# Altium integrated library Actel RTSX-SU.IntLib: 48 symbols (part 3 of 6)
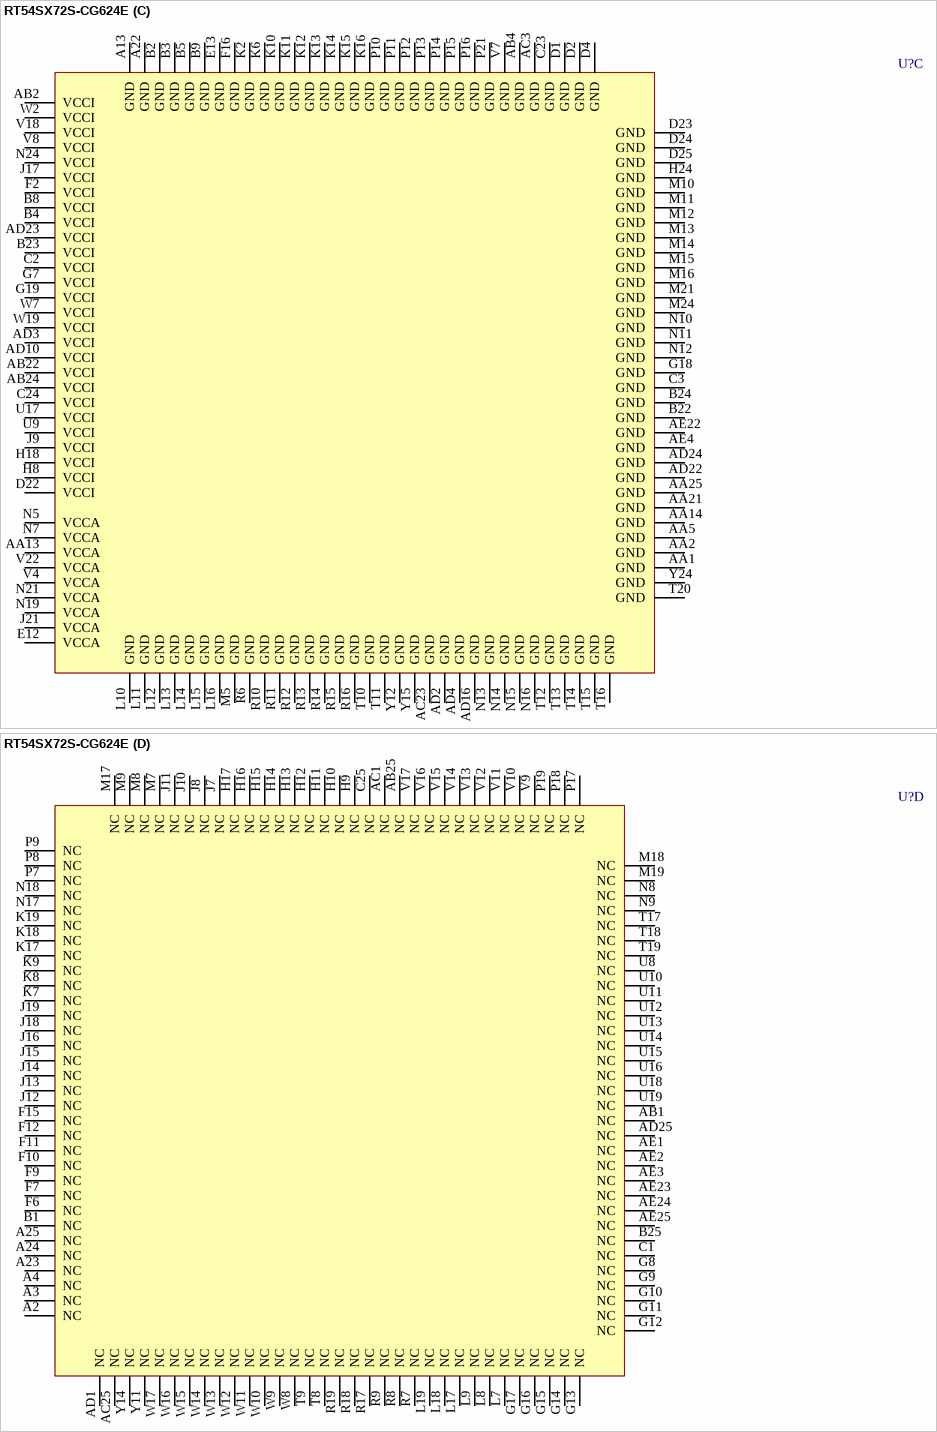
[diagram p61: symbol RT54SX72S-CG624E]

## RT54SX72S-CG624E
designator U?
RT54SX72S RadTolerant FPGA, 360 User IOs, 624-Pin CCGA, Speed Grade Standard, E-Flow (Space Level Flow); DatasheetVersion: v2.2, Nov-2004; PackageVersion: ver11.2, Nov-2009; PackageReference: CG624; PackageDescription: 624-Pin Ceramic Column Grid Array 1.27 mm Pitch; Code_JEDEC: MO-158-BE-01; ComponentLink1Description: Manufacturer URL; ComponentLink1URL: http://www.actel.com/; ComponentLink2Description: RTSX-S RadTolerant Datasheet; ComponentLink2URL: http://www.actel.com/documents/RT54SXS_DS.pdf; ComponentLink3Description: Package Mechanical Drawings; ComponentLink3URL: http://www.actel.com/documents/PckgMechDrwngs.pdf; ComponentLink4Description: RTSX-S Discontinued Documents; ComponentLink4URL: http://www.actel.com/products/discontinued/default.aspx#rtsxs
footprint CG624 (CGA, 624-Leads, Body 32.5x32.5mm, Pitch 1.27mm)
part A pins: A5 IO (io), A6 IO (io), A7 IO (io), A8 IO (io), A9 IO (io), A10 IO (io), A11 IO (io), A12 IO (io), A14 IO (io), A15 IO (io), A16 IO (io), A17 IO (io), A18 IO (io), A19 IO (io), A20 IO (io), A21 IO (io), AB3 IO (io), AB5 IO (io), AB6 IO (io), AB7 IO (io), AB8 IO (io), AB9 IO (io), AB10 IO (io), AB11 IO (io), AB12 QCLKA/IO (io), AB13 IO (io), AB14 IO (io), AB15 IO (io), AB16 IO (io), AB17 IO (io), AB18 IO (io), AB19 IO (io), AB20 IO (io), AB21 TDO/IO (io), AB23 IO (io), AC2 IO (io), AC4 IO (io), AC5 IO (io), AC6 IO (io), AC7 IO (io), AC8 IO (io), AC9 IO (io), AC10 IO (io), AC11 IO (io), AC12 PRB/IO (io), AC14 HCLK (in), AE14 QCLKB/IO (io), B6 IO (io), B7 IO (io), B10 IO (io), B11 IO (io), B14 CLKB/IO (io), C11 QCLKC/IO (io), C13 PRA/IO (io), C14 CLKA/IO (io), C22 IO (io), D3 TDI (in), D5 IO (io), D6 IO (io), D7 IO (io), D8 IO (io), D9 IO (io), D10 IO (io), D11 IO (io), D12 IO (io), D13 IO (io), D14 QCLKD/IO (io), D15 IO (io), D16 IO (io), D17 IO (io), D18 IO (io), D19 IO (io), D20 IO (io), D21 IO (io), E1 IO (io), E2 IO (io), E3 IO (io), E4 IO (io), E5 TCK/IO (io), E6 IO (io), E7 IO (io), E8 IO (io), E9 IO (io), E10 IO (io), E11 IO (io), E14 IO (io), E15 IO (io), E16 IO (io), E17 IO (io), E18 IO (io), E19 IO (io), E20 IO (io), E21 IO (io), E22 IO (io), E23 IO (io), E24 IO (io), E25 IO (io), F1 IO (io), F3 IO (io), F4 IO (io), F5 IO (io), F8 IO (io), F13 IO (io), F14 IO (io), G3 TMS (in), H2 IO (io), H3 IO (io), H4 IO (io), H5 IO (io), H6 IO (io), H7 IO (io), H19 IO (io), H20 IO (io), H21 IO (io), H22 IO (io), H23 IO (io), H25 IO (io), J1 IO (io), J2 IO (io), J3 IO (io), J4 IO (io), J5 IO (io), J6 IO (io), J20 IO (io), J22 IO (io), J23 IO (io), J24 IO (io), J25 IO (io), K1 IO (io), K3 IO (io), K4 IO (io), K5 IO (io), K20 IO (io), K21 IO (io), M20 IO (io), M22 IO (io), M23 IO (io), M25 IO (io), N1 IO (io), N2 IO (io), N3 IO (io), N4 IO (io), N6 IO (io), N20 IO (io), N22 IO (io), N23 IO (io), N25 IO (io), P1 IO (io), P2 IO (io), P3 IO (io), P4 IO (io), P5 IO (io), P6 IO (io), P20 IO (io), P22 IO (io), P23 IO (io), P24 IO (io), P25 IO (io), R1 IO (io), R4 ~{TRST} (in), U22 IO (io), U23 IO (io), U24 IO (io), U25 IO (io), V1 IO (io), V2 IO (io), V3 IO (io), V5 IO (io), V6 IO (io), V19 IO (io), V20 IO (io), V21 IO (io), V23 IO (io), V24 IO (io), V25 IO (io), W1 IO (io), W3 IO (io), W4 IO (io), W5 IO (io), W6 IO (io)
part B pins: AA3 IO (io), AA4 IO (io), AA6 IO (io), AA7 IO (io), AA8 IO (io), AA9 IO (io), AA10 IO (io), AA11 IO (io), AA12 IO (io), AA15 IO (io), AA16 IO (io), AA17 IO (io), AA18 IO (io), AA19 IO (io), AA20 IO (io), AA22 IO (io), AA23 IO (io), AA24 IO (io), AC13 IO (io), AC15 IO (io), AC16 IO (io), AC17 IO (io), AC18 IO (io), AC19 IO (io), AC20 IO (io), AC21 IO (io), AC22 IO (io), AC24 IO (io), AD5 IO (io), AD6 IO (io), AD7 IO (io), AD8 IO (io), AD9 IO (io), AD11 IO (io), AD12 IO (io), AD13 IO (io), AD14 IO (io), AD15 IO (io), AD17 IO (io), AD18 IO (io), AD19 IO (io), AD20 IO (io), AD21 IO (io), AE5 IO (io), AE6 IO (io), AE7 IO (io), AE8 IO (io), AE9 IO (io), AE10 IO (io), AE11 IO (io), AE12 IO (io), AE13 IO (io), AE15 IO (io), AE16 IO (io), AE17 IO (io), AE18 IO (io), AE19 IO (io), AE20 IO (io), AE21 IO (io), B12 IO (io), B13 IO (io), B15 IO (io), B16 IO (io), B17 IO (io), B18 IO (io), B19 IO (io), B20 IO (io), B21 IO (io), C4 IO (io), C5 IO (io), C6 IO (io), C7 IO (io), C8 IO (io), C9 IO (io), C10 IO (io), C12 IO (io), C15 IO (io), C16 IO (io), C17 IO (io), C18 IO (io), C19 IO (io), C20 IO (io), C21 IO (io), F17 IO (io), F18 IO (io), F19 IO (io), F20 IO (io), F21 IO (io), F22 IO (io), F23 IO (io), F24 IO (io), F25 IO (io), G1 IO (io), G2 IO (io), G4 IO (io), G5 IO (io), G6 IO (io), G20 IO (io), G21 IO (io), G22 IO (io), G23 IO (io), G24 IO (io), G25 IO (io), H1 IO (io), K22 IO (io), K23 IO (io), K24 IO (io), K25 IO (io), L1 IO (io), L2 IO (io), L3 IO (io), L4 IO (io), L5 IO (io), L6 IO (io), L20 IO (io), L21 IO (io), L22 IO (io), L23 IO (io), L24 IO (io), L25 IO (io), M1 IO (io), M2 IO (io), M3 IO (io), M4 IO (io), M6 IO (io), R2 IO (io), R3 IO (io), R5 IO (io), R20 IO (io), R21 IO (io), R22 IO (io), R23 IO (io), R24 IO (io), R25 IO (io), T1 IO (io), T2 IO (io), T3 IO (io), T4 IO (io), T5 IO (io), T6 IO (io), T7 IO (io), T21 IO (io), T22 IO (io), T23 IO (io), T24 IO (io), T25 IO (io), U1 IO (io), U2 IO (io), U3 IO (io), U4 IO (io), U5 IO (io), U6 IO (io), U7 IO (io), U20 IO (io), U21 IO (io), W18 IO (io), W20 IO (io), W21 IO (io), W22 IO (io), W23 IO (io), W24 IO (io), W25 IO (io), Y1 IO (io), Y2 IO (io), Y3 IO (io), Y4 IO (io), Y5 IO (io), Y6 IO (io), Y7 IO (io), Y8 IO (io), Y9 IO (io), Y10 IO (io), Y13 IO (io), Y16 IO (io), Y17 IO (io), Y18 IO (io), Y19 IO (io), Y20 IO (io), Y21 IO (io), Y22 IO (io), Y23 IO (io), Y25 IO (io)
part C pins: A13 GND (power), A22 GND (power), AA1 GND (power), AA2 GND (power), AA5 GND (power), AA13 VCCA (power), AA14 GND (power), AA21 GND (power), AA25 GND (power), AB2 VCCI (power), AB4 GND (power), AB22 VCCI (power), AB24 VCCI (power), AC3 GND (power), AC23 GND (power), AD2 GND (power), AD3 VCCI (power), AD4 GND (power), AD10 VCCI (power), AD16 GND (power), AD22 GND (power), AD23 VCCI (power), AD24 GND (power), AE4 GND (power), AE22 GND (power), B2 GND (power), B3 GND (power), B4 VCCI (power), B5 GND (power), B8 VCCI (power), B9 GND (power), B22 GND (power), B23 VCCI (power), B24 GND (power), C2 VCCI (power), C3 GND (power), C23 GND (power), C24 VCCI (power), D1 GND (power), D2 GND (power), D4 GND (power), D22 VCCI (power), D23 GND (power), D24 GND (power), D25 GND (power), E12 VCCA (power), E13 GND (power), F2 VCCI (power), F16 GND (power), G7 VCCI (power), G18 GND (power), G19 VCCI (power), H8 VCCI (power), H18 VCCI (power), H24 GND (power), J9 VCCI (power), J17 VCCI (power), J21 VCCA (power), K2 GND (power), K6 GND (power), K10 GND (power), K11 GND (power), K12 GND (power), K13 GND (power), K14 GND (power), K15 GND (power), K16 GND (power), L10 GND (power), L11 GND (power), L12 GND (power), L13 GND (power), L14 GND (power), L15 GND (power), L16 GND (power), M5 GND (power), M10 GND (power), M11 GND (power), M12 GND (power), M13 GND (power), M14 GND (power), M15 GND (power), M16 GND (power), M21 GND (power), M24 GND (power), N5 VCCA (power), N7 VCCA (power), N10 GND (power), N11 GND (power), N12 GND (power), N13 GND (power), N14 GND (power), N15 GND (power), N16 GND (power), N19 VCCA (power), N21 VCCA (power), N24 VCCI (power), P10 GND (power), P11 GND (power), P12 GND (power), P13 GND (power), P14 GND (power), P15 GND (power), P16 GND (power), P21 GND (power), R6 GND (power), R10 GND (power), R11 GND (power), R12 GND (power), R13 GND (power), R14 GND (power), R15 GND (power), R16 GND (power), T10 GND (power), T11 GND (power), T12 GND (power), T13 GND (power), T14 GND (power), T15 GND (power), T16 GND (power), T20 GND (power), U9 VCCI (power), U17 VCCI (power), V4 VCCA (power), V7 GND (power), V8 VCCI (power), V18 VCCI (power), V22 VCCA (power), W2 VCCI (power), W7 VCCI (power), W19 VCCI (power), Y12 GND (power), Y15 GND (power), Y24 GND (power)
part D pins: A2 NC, A3 NC, A4 NC, A23 NC, A24 NC, A25 NC, AB1 NC, AB25 NC, AC1 NC, AC25 NC, AD1 NC, AD25 NC, AE1 NC, AE2 NC, AE3 NC, AE23 NC, AE24 NC, AE25 NC, B1 NC, B25 NC, C1 NC, C25 NC, F6 NC, F7 NC, F9 NC, F10 NC, F11 NC, F12 NC, F15 NC, G8 NC, G9 NC, G10 NC, G11 NC, G12 NC, G13 NC, G14 NC, G15 NC, G16 NC, G17 NC, H9 NC, H10 NC, H11 NC, H12 NC, H13 NC, H14 NC, H15 NC, H16 NC, H17 NC, J7 NC, J8 NC, J10 NC, J11 NC, J12 NC, J13 NC, J14 NC, J15 NC, J16 NC, J18 NC, J19 NC, K7 NC, K8 NC, K9 NC, K17 NC, K18 NC, K19 NC, L7 NC, L8 NC, L9 NC, L17 NC, L18 NC, L19 NC, M7 NC, M8 NC, M9 NC, M17 NC, M18 NC, M19 NC, N8 NC, N9 NC, N17 NC, N18 NC, P7 NC, P8 NC, P9 NC, P17 NC, P18 NC, P19 NC, R7 NC, R8 NC, R9 NC, R17 NC, R18 NC, R19 NC, T8 NC, T9 NC, T17 NC, T18 NC, T19 NC, U8 NC, U10 NC, U11 NC, U12 NC, U13 NC, U14 NC, U15 NC, U16 NC, U18 NC, U19 NC, V9 NC, V10 NC, V11 NC, V12 NC, V13 NC, V14 NC, V15 NC, V16 NC, V17 NC, W8 NC, W9 NC, W10 NC, W11 NC, W12 NC, W13 NC, W14 NC, W15 NC, W16 NC, W17 NC, Y11 NC, Y14 NC

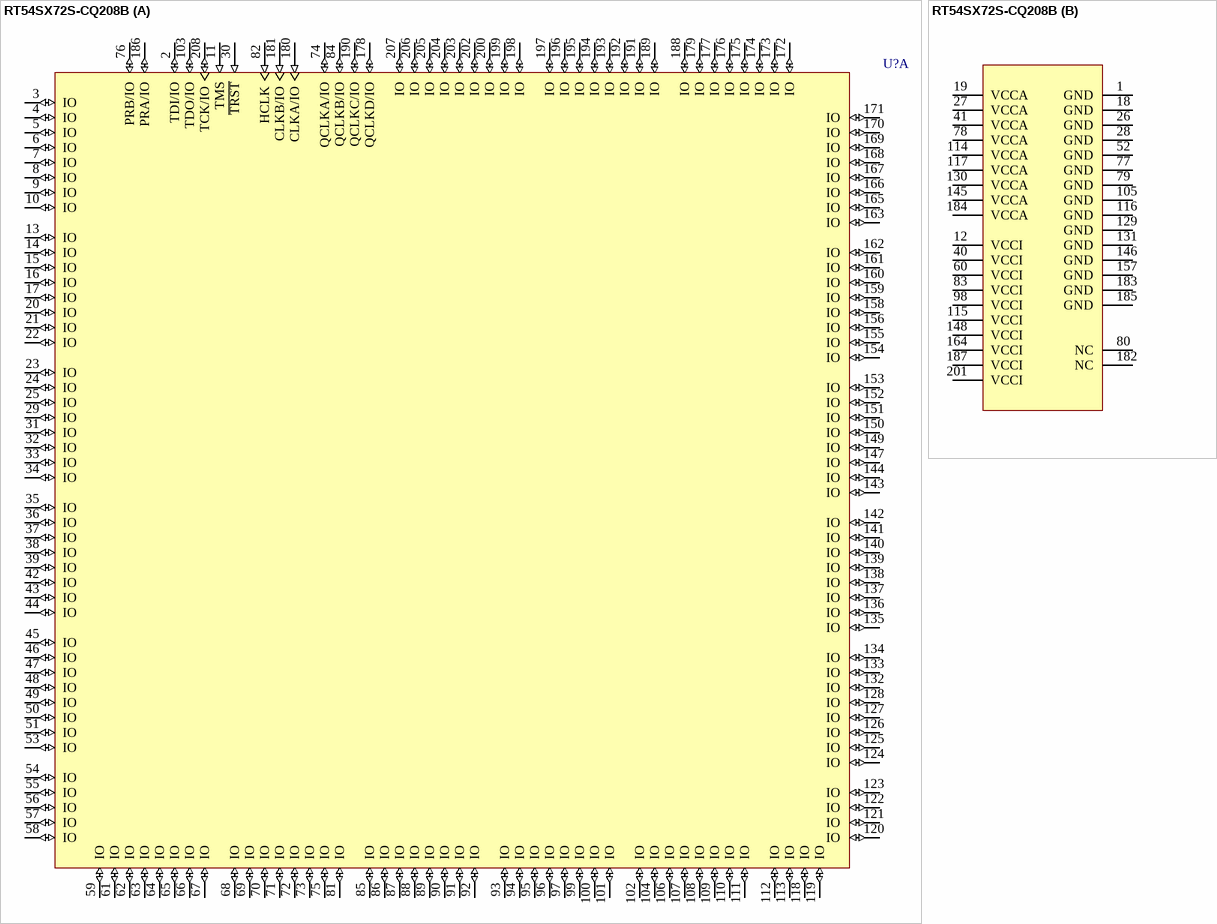
[diagram p26: symbol RT54SX72S-CQ208B]

## RT54SX72S-CQ208B
designator U?
RT54SX72S RadTolerant FPGA, 170 User IOs, 208-Pin CQFP, Speed Grade Standard, MIL-STD-883 Class B; DatasheetVersion: v2.2, Nov-2004; PackageVersion: ver11.2, Nov-2009; PackageReference: CQ208; PackageDescription: 208-Pin Ceramic Quad Flat Pack (CQFP); ComponentLink1Description: Manufacturer URL; ComponentLink1URL: http://www.actel.com/; ComponentLink2Description: RTSX-S RadTolerant Datasheet; ComponentLink2URL: http://www.actel.com/documents/RT54SXS_DS.pdf; ComponentLink3Description: Package Mechanical Drawings; ComponentLink3URL: http://www.actel.com/documents/PckgMechDrwngs.pdf; ComponentLink4Description: RTSX-S Discontinued Documents; ComponentLink4URL: http://www.actel.com/products/discontinued/default.aspx#rtsxs
footprint CQ208_N (CQFP, 208-Leads, Body 29x29mm; Pitch 0.5mm, Gullwing Leadform, IPC Medium Density)
footprint CQ208_L (CQFP, 208-Leads, Body 29x29mm; Pitch 0.5mm, Gullwing Leadform, IPC High Density)
footprint CQ208_M (CQFP, 208-Leads, Body 29x29mm; Pitch 0.5mm, Gullwing Leadform, IPC Low Density)
part A pins: 2 TDI/IO (io), 3 IO (io), 4 IO (io), 5 IO (io), 6 IO (io), 7 IO (io), 8 IO (io), 9 IO (io), 10 IO (io), 11 TMS (in), 13 IO (io), 14 IO (io), 15 IO (io), 16 IO (io), 17 IO (io), 20 IO (io), 21 IO (io), 22 IO (io), 23 IO (io), 24 IO (io), 25 IO (io), 29 IO (io), 30 ~{TRST} (in), 31 IO (io), 32 IO (io), 33 IO (io), 34 IO (io), 35 IO (io), 36 IO (io), 37 IO (io), 38 IO (io), 39 IO (io), 42 IO (io), 43 IO (io), 44 IO (io), 45 IO (io), 46 IO (io), 47 IO (io), 48 IO (io), 49 IO (io), 50 IO (io), 51 IO (io), 53 IO (io), 54 IO (io), 55 IO (io), 56 IO (io), 57 IO (io), 58 IO (io), 59 IO (io), 61 IO (io), 62 IO (io), 63 IO (io), 64 IO (io), 65 IO (io), 66 IO (io), 67 IO (io), 68 IO (io), 69 IO (io), 70 IO (io), 71 IO (io), 72 IO (io), 73 IO (io), 74 QCLKA/IO (io), 75 IO (io), 76 PRB/IO (io), 81 IO (io), 82 HCLK (in), 84 QCLKB/IO (io), 85 IO (io), 86 IO (io), 87 IO (io), 88 IO (io), 89 IO (io), 90 IO (io), 91 IO (io), 92 IO (io), 93 IO (io), 94 IO (io), 95 IO (io), 96 IO (io), 97 IO (io), 99 IO (io), 100 IO (io), 101 IO (io), 102 IO (io), 103 TDO/IO (io), 104 IO (io), 106 IO (io), 107 IO (io), 108 IO (io), 109 IO (io), 110 IO (io), 111 IO (io), 112 IO (io), 113 IO (io), 118 IO (io), 119 IO (io), 120 IO (io), 121 IO (io), 122 IO (io), 123 IO (io), 124 IO (io), 125 IO (io), 126 IO (io), 127 IO (io), 128 IO (io), 132 IO (io), 133 IO (io), 134 IO (io), 135 IO (io), 136 IO (io), 137 IO (io), 138 IO (io), 139 IO (io), 140 IO (io), 141 IO (io), 142 IO (io), 143 IO (io), 144 IO (io), 147 IO (io), 149 IO (io), 150 IO (io), 151 IO (io), 152 IO (io), 153 IO (io), 154 IO (io), 155 IO (io), 156 IO (io), 158 IO (io), 159 IO (io), 160 IO (io), 161 IO (io), 162 IO (io), 163 IO (io), 165 IO (io), 166 IO (io), 167 IO (io), 168 IO (io), 169 IO (io), 170 IO (io), 171 IO (io), 172 IO (io), 173 IO (io), 174 IO (io), 175 IO (io), 176 IO (io), 177 IO (io), 178 QCLKD/IO (io), 179 IO (io), 180 CLKA/IO (in), 181 CLKB/IO (in), 186 PRA/IO (io), 188 IO (io), 189 IO (io), 190 QCLKC/IO (io), 191 IO (io), 192 IO (io), 193 IO (io), 194 IO (io), 195 IO (io), 196 IO (io), 197 IO (io), 198 IO (io), 199 IO (io), 200 IO (io), 202 IO (io), 203 IO (io), 204 IO (io), 205 IO (io), 206 IO (io), 207 IO (io), 208 TCK/IO (io)
part B pins: 1 GND (power), 12 VCCI (power), 18 GND (power), 19 VCCA (power), 26 GND (power), 27 VCCA (power), 28 GND (power), 40 VCCI (power), 41 VCCA (power), 52 GND (power), 60 VCCI (power), 77 GND (power), 78 VCCA (power), 79 GND (power), 80 NC, 83 VCCI (power), 98 VCCI (power), 105 GND (power), 114 VCCA (power), 115 VCCI (power), 116 GND (power), 117 VCCA (power), 129 GND (power), 130 VCCA (power), 131 GND (power), 145 VCCA (power), 146 GND (power), 148 VCCI (power), 157 GND (power), 164 VCCI (power), 182 NC, 183 GND (power), 184 VCCA (power), 185 GND (power), 187 VCCI (power), 201 VCCI (power)

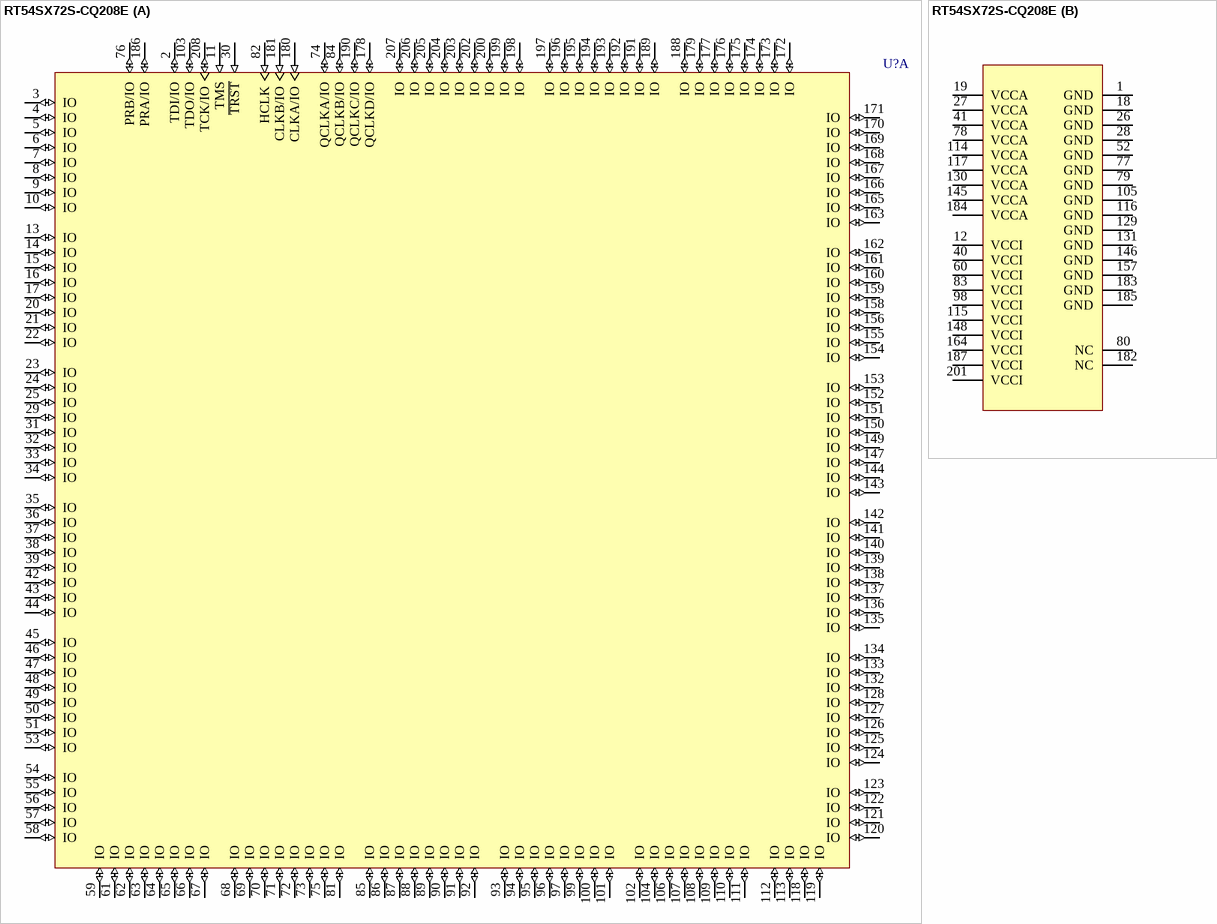
[diagram p27: symbol RT54SX72S-CQ208E]

## RT54SX72S-CQ208E
designator U?
RT54SX72S RadTolerant FPGA, 170 User IOs, 208-Pin CQFP, Speed Grade Standard, E-Flow (Space Level Flow); DatasheetVersion: v2.2, Nov-2004; PackageVersion: ver11.2, Nov-2009; PackageReference: CQ208; PackageDescription: 208-Pin Ceramic Quad Flat Pack (CQFP); ComponentLink1Description: Manufacturer URL; ComponentLink1URL: http://www.actel.com/; ComponentLink2Description: RTSX-S RadTolerant Datasheet; ComponentLink2URL: http://www.actel.com/documents/RT54SXS_DS.pdf; ComponentLink3Description: Package Mechanical Drawings; ComponentLink3URL: http://www.actel.com/documents/PckgMechDrwngs.pdf; ComponentLink4Description: RTSX-S Discontinued Documents; ComponentLink4URL: http://www.actel.com/products/discontinued/default.aspx#rtsxs
footprint CQ208_N (CQFP, 208-Leads, Body 29x29mm; Pitch 0.5mm, Gullwing Leadform, IPC Medium Density)
footprint CQ208_L (CQFP, 208-Leads, Body 29x29mm; Pitch 0.5mm, Gullwing Leadform, IPC High Density)
footprint CQ208_M (CQFP, 208-Leads, Body 29x29mm; Pitch 0.5mm, Gullwing Leadform, IPC Low Density)
part A pins: 2 TDI/IO (io), 3 IO (io), 4 IO (io), 5 IO (io), 6 IO (io), 7 IO (io), 8 IO (io), 9 IO (io), 10 IO (io), 11 TMS (in), 13 IO (io), 14 IO (io), 15 IO (io), 16 IO (io), 17 IO (io), 20 IO (io), 21 IO (io), 22 IO (io), 23 IO (io), 24 IO (io), 25 IO (io), 29 IO (io), 30 ~{TRST} (in), 31 IO (io), 32 IO (io), 33 IO (io), 34 IO (io), 35 IO (io), 36 IO (io), 37 IO (io), 38 IO (io), 39 IO (io), 42 IO (io), 43 IO (io), 44 IO (io), 45 IO (io), 46 IO (io), 47 IO (io), 48 IO (io), 49 IO (io), 50 IO (io), 51 IO (io), 53 IO (io), 54 IO (io), 55 IO (io), 56 IO (io), 57 IO (io), 58 IO (io), 59 IO (io), 61 IO (io), 62 IO (io), 63 IO (io), 64 IO (io), 65 IO (io), 66 IO (io), 67 IO (io), 68 IO (io), 69 IO (io), 70 IO (io), 71 IO (io), 72 IO (io), 73 IO (io), 74 QCLKA/IO (io), 75 IO (io), 76 PRB/IO (io), 81 IO (io), 82 HCLK (in), 84 QCLKB/IO (io), 85 IO (io), 86 IO (io), 87 IO (io), 88 IO (io), 89 IO (io), 90 IO (io), 91 IO (io), 92 IO (io), 93 IO (io), 94 IO (io), 95 IO (io), 96 IO (io), 97 IO (io), 99 IO (io), 100 IO (io), 101 IO (io), 102 IO (io), 103 TDO/IO (io), 104 IO (io), 106 IO (io), 107 IO (io), 108 IO (io), 109 IO (io), 110 IO (io), 111 IO (io), 112 IO (io), 113 IO (io), 118 IO (io), 119 IO (io), 120 IO (io), 121 IO (io), 122 IO (io), 123 IO (io), 124 IO (io), 125 IO (io), 126 IO (io), 127 IO (io), 128 IO (io), 132 IO (io), 133 IO (io), 134 IO (io), 135 IO (io), 136 IO (io), 137 IO (io), 138 IO (io), 139 IO (io), 140 IO (io), 141 IO (io), 142 IO (io), 143 IO (io), 144 IO (io), 147 IO (io), 149 IO (io), 150 IO (io), 151 IO (io), 152 IO (io), 153 IO (io), 154 IO (io), 155 IO (io), 156 IO (io), 158 IO (io), 159 IO (io), 160 IO (io), 161 IO (io), 162 IO (io), 163 IO (io), 165 IO (io), 166 IO (io), 167 IO (io), 168 IO (io), 169 IO (io), 170 IO (io), 171 IO (io), 172 IO (io), 173 IO (io), 174 IO (io), 175 IO (io), 176 IO (io), 177 IO (io), 178 QCLKD/IO (io), 179 IO (io), 180 CLKA/IO (in), 181 CLKB/IO (in), 186 PRA/IO (io), 188 IO (io), 189 IO (io), 190 QCLKC/IO (io), 191 IO (io), 192 IO (io), 193 IO (io), 194 IO (io), 195 IO (io), 196 IO (io), 197 IO (io), 198 IO (io), 199 IO (io), 200 IO (io), 202 IO (io), 203 IO (io), 204 IO (io), 205 IO (io), 206 IO (io), 207 IO (io), 208 TCK/IO (io)
part B pins: 1 GND (power), 12 VCCI (power), 18 GND (power), 19 VCCA (power), 26 GND (power), 27 VCCA (power), 28 GND (power), 40 VCCI (power), 41 VCCA (power), 52 GND (power), 60 VCCI (power), 77 GND (power), 78 VCCA (power), 79 GND (power), 80 NC, 83 VCCI (power), 98 VCCI (power), 105 GND (power), 114 VCCA (power), 115 VCCI (power), 116 GND (power), 117 VCCA (power), 129 GND (power), 130 VCCA (power), 131 GND (power), 145 VCCA (power), 146 GND (power), 148 VCCI (power), 157 GND (power), 164 VCCI (power), 182 NC, 183 GND (power), 184 VCCA (power), 185 GND (power), 187 VCCI (power), 201 VCCI (power)

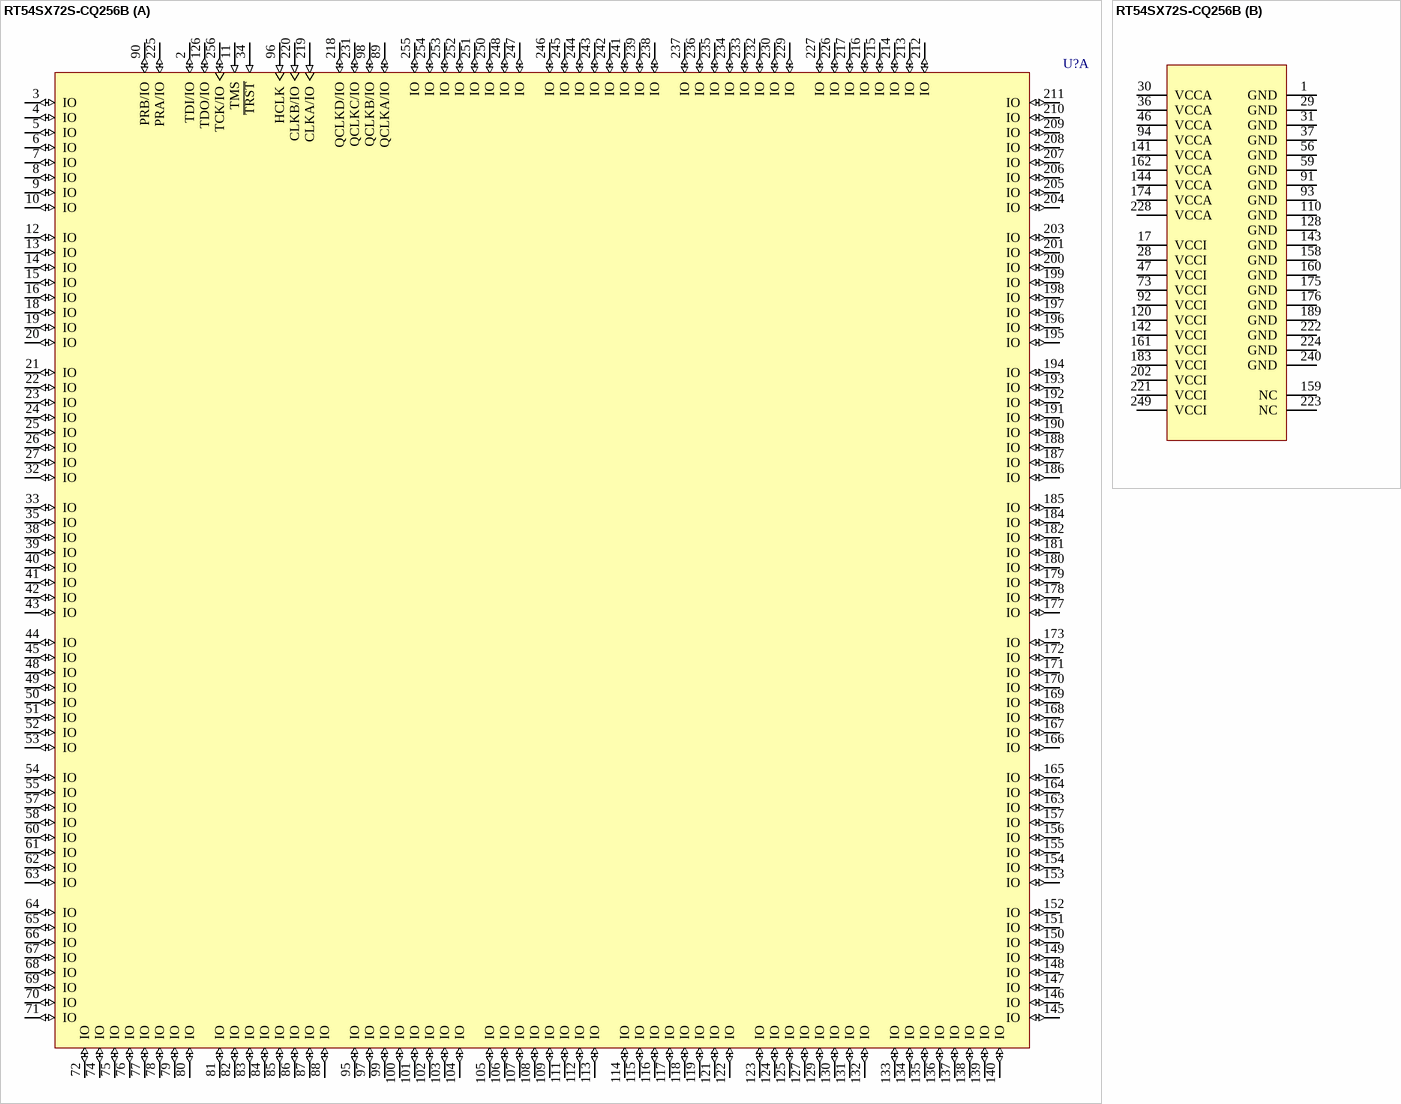
[diagram p28: symbol RT54SX72S-CQ256B]

## RT54SX72S-CQ256B
designator U?
RT54SX72S RadTolerant FPGA, 212 User IOs, 256-Pin CQFP, Speed Grade Standard, MIL-STD-883 Class B; DatasheetVersion: v2.2, Nov-2004; PackageVersion: ver11.2, Nov-2009; PackageReference: CQ256; PackageDescription: 256-Pin Ceramic Quad Flat Pack (CQFP); Code_JEDEC: MO-134-AB; ComponentLink1Description: Manufacturer URL; ComponentLink1URL: http://www.actel.com/; ComponentLink2Description: RTSX-S RadTolerant Datasheet; ComponentLink2URL: http://www.actel.com/documents/RT54SXS_DS.pdf; ComponentLink3Description: Package Mechanical Drawings; ComponentLink3URL: http://www.actel.com/documents/PckgMechDrwngs.pdf; ComponentLink4Description: RTSX-S Discontinued Documents; ComponentLink4URL: http://www.actel.com/products/discontinued/default.aspx#rtsxs
footprint CQ256_N (CQFP, 256-Leads, Body 36x36mm; Pitch 0.5mm, Gullwing Leadform, IPC Medium Density)
footprint CQ256_L (CQFP, 256-Leads, Body 36x36mm; Pitch 0.5mm, Gullwing Leadform, IPC High Density)
footprint CQ256_M (CQFP, 256-Leads, Body 36x36mm; Pitch 0.5mm, Gullwing Leadform, IPC Low Density)
part A pins: 2 TDI/IO (io), 3 IO (io), 4 IO (io), 5 IO (io), 6 IO (io), 7 IO (io), 8 IO (io), 9 IO (io), 10 IO (io), 11 TMS (in), 12 IO (io), 13 IO (io), 14 IO (io), 15 IO (io), 16 IO (io), 18 IO (io), 19 IO (io), 20 IO (io), 21 IO (io), 22 IO (io), 23 IO (io), 24 IO (io), 25 IO (io), 26 IO (io), 27 IO (io), 32 IO (io), 33 IO (io), 34 ~{TRST} (in), 35 IO (io), 38 IO (io), 39 IO (io), 40 IO (io), 41 IO (io), 42 IO (io), 43 IO (io), 44 IO (io), 45 IO (io), 48 IO (io), 49 IO (io), 50 IO (io), 51 IO (io), 52 IO (io), 53 IO (io), 54 IO (io), 55 IO (io), 57 IO (io), 58 IO (io), 60 IO (io), 61 IO (io), 62 IO (io), 63 IO (io), 64 IO (io), 65 IO (io), 66 IO (io), 67 IO (io), 68 IO (io), 69 IO (io), 70 IO (io), 71 IO (io), 72 IO (io), 74 IO (io), 75 IO (io), 76 IO (io), 77 IO (io), 78 IO (io), 79 IO (io), 80 IO (io), 81 IO (io), 82 IO (io), 83 IO (io), 84 IO (io), 85 IO (io), 86 IO (io), 87 IO (io), 88 IO (io), 89 QCLKA/IO (io), 90 PRB/IO (io), 95 IO (io), 96 HCLK (in), 97 IO (io), 98 QCLKB/IO (io), 99 IO (io), 100 IO (io), 101 IO (io), 102 IO (io), 103 IO (io), 104 IO (io), 105 IO (io), 106 IO (io), 107 IO (io), 108 IO (io), 109 IO (io), 111 IO (io), 112 IO (io), 113 IO (io), 114 IO (io), 115 IO (io), 116 IO (io), 117 IO (io), 118 IO (io), 119 IO (io), 121 IO (io), 122 IO (io), 123 IO (io), 124 IO (io), 125 IO (io), 126 TDO/IO (io), 127 IO (io), 129 IO (io), 130 IO (io), 131 IO (io), 132 IO (io), 133 IO (io), 134 IO (io), 135 IO (io), 136 IO (io), 137 IO (io), 138 IO (io), 139 IO (io), 140 IO (io), 145 IO (io), 146 IO (io), 147 IO (io), 148 IO (io), 149 IO (io), 150 IO (io), 151 IO (io), 152 IO (io), 153 IO (io), 154 IO (io), 155 IO (io), 156 IO (io), 157 IO (io), 163 IO (io), 164 IO (io), 165 IO (io), 166 IO (io), 167 IO (io), 168 IO (io), 169 IO (io), 170 IO (io), 171 IO (io), 172 IO (io), 173 IO (io), 177 IO (io), 178 IO (io), 179 IO (io), 180 IO (io), 181 IO (io), 182 IO (io), 184 IO (io), 185 IO (io), 186 IO (io), 187 IO (io), 188 IO (io), 190 IO (io), 191 IO (io), 192 IO (io), 193 IO (io), 194 IO (io), 195 IO (io), 196 IO (io), 197 IO (io), 198 IO (io), 199 IO (io), 200 IO (io), 201 IO (io), 203 IO (io), 204 IO (io), 205 IO (io), 206 IO (io), 207 IO (io), 208 IO (io), 209 IO (io), 210 IO (io), 211 IO (io), 212 IO (io), 213 IO (io), 214 IO (io), 215 IO (io), 216 IO (io), 217 IO (io), 218 QCLKD/IO (io), 219 CLKA/IO (in), 220 CLKB/IO (in), 225 PRA/IO (io), 226 IO (io), 227 IO (io), 229 IO (io), 230 IO (io), 231 QCLKC/IO (io), 232 IO (io), 233 IO (io), 234 IO (io), 235 IO (io), 236 IO (io), 237 IO (io), 238 IO (io), 239 IO (io), 241 IO (io), 242 IO (io), 243 IO (io), 244 IO (io), 245 IO (io), 246 IO (io), 247 IO (io), 248 IO (io), 250 IO (io), 251 IO (io), 252 IO (io), 253 IO (io), 254 IO (io), 255 IO (io), 256 TCK/IO (io)
part B pins: 1 GND (power), 17 VCCI (power), 28 VCCI (power), 29 GND (power), 30 VCCA (power), 31 GND (power), 36 VCCA (power), 37 GND (power), 46 VCCA (power), 47 VCCI (power), 56 GND (power), 59 GND (power), 73 VCCI (power), 91 GND (power), 92 VCCI (power), 93 GND (power), 94 VCCA (power), 110 GND (power), 120 VCCI (power), 128 GND (power), 141 VCCA (power), 142 VCCI (power), 143 GND (power), 144 VCCA (power), 158 GND (power), 159 NC, 160 GND (power), 161 VCCI (power), 162 VCCA (power), 174 VCCA (power), 175 GND (power), 176 GND (power), 183 VCCI (power), 189 GND (power), 202 VCCI (power), 221 VCCI (power), 222 GND (power), 223 NC, 224 GND (power), 228 VCCA (power), 240 GND (power), 249 VCCI (power)

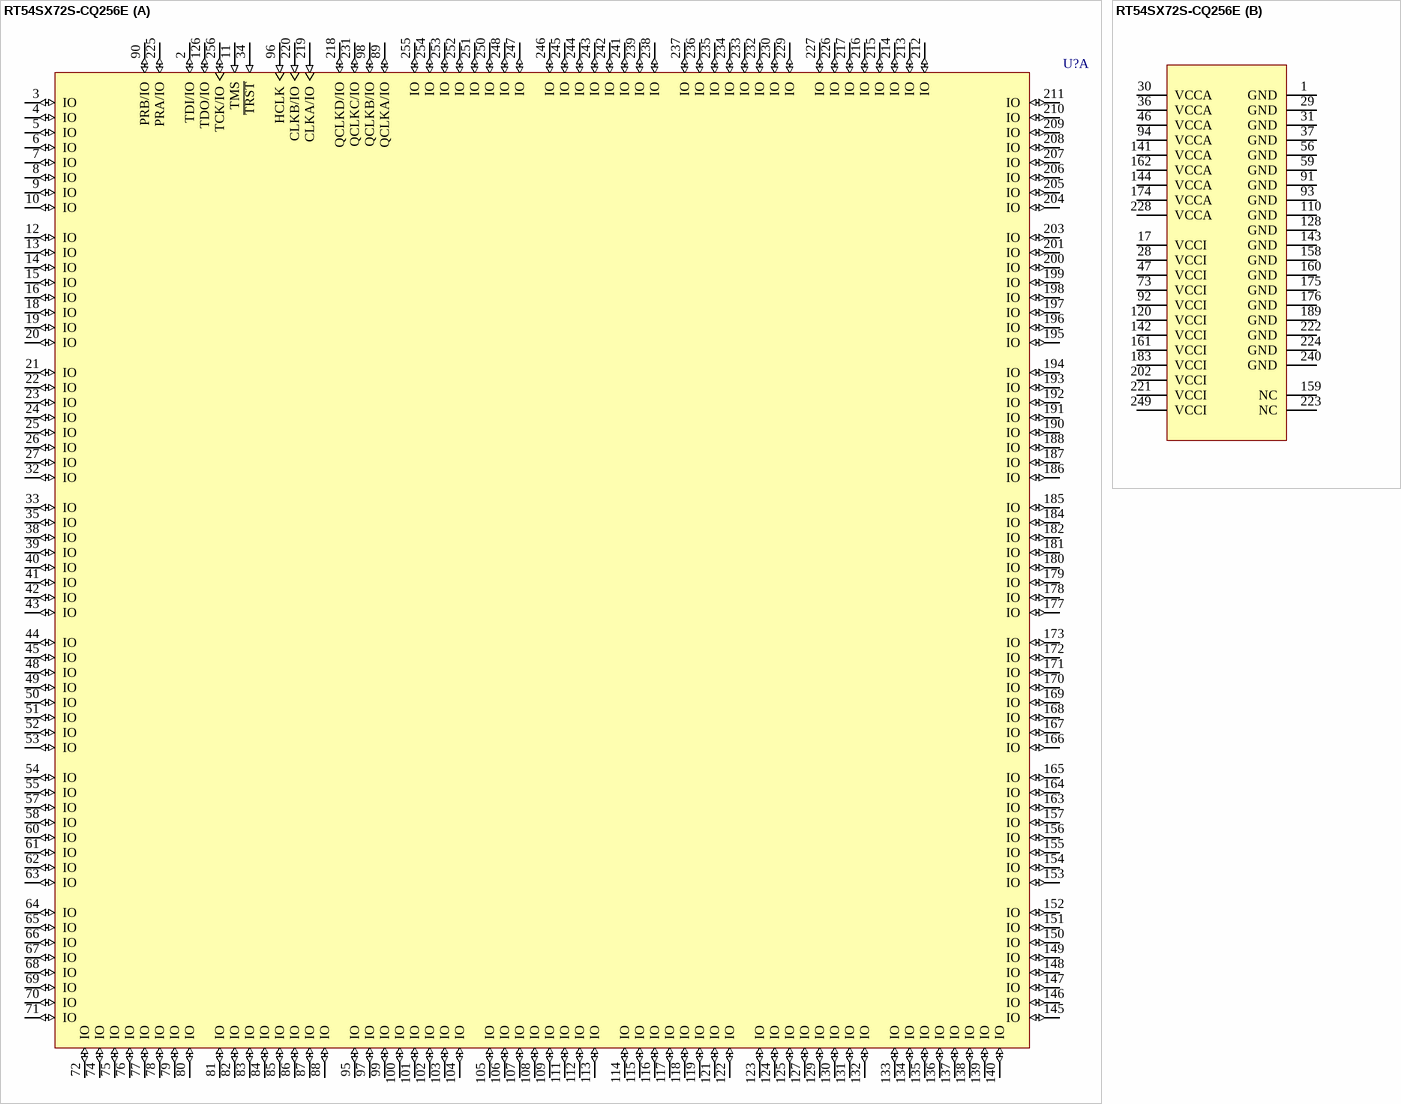
[diagram p29: symbol RT54SX72S-CQ256E]

## RT54SX72S-CQ256E
designator U?
RT54SX72S RadTolerant FPGA, 212 User IOs, 256-Pin CQFP, Speed Grade Standard, E-Flow (Space Level Flow); DatasheetVersion: v2.2, Nov-2004; PackageVersion: ver11.2, Nov-2009; PackageReference: CQ256; PackageDescription: 256-Pin Ceramic Quad Flat Pack (CQFP); Code_JEDEC: MO-134-AB; ComponentLink1Description: Manufacturer URL; ComponentLink1URL: http://www.actel.com/; ComponentLink2Description: RTSX-S RadTolerant Datasheet; ComponentLink2URL: http://www.actel.com/documents/RT54SXS_DS.pdf; ComponentLink3Description: Package Mechanical Drawings; ComponentLink3URL: http://www.actel.com/documents/PckgMechDrwngs.pdf; ComponentLink4Description: RTSX-S Discontinued Documents; ComponentLink4URL: http://www.actel.com/products/discontinued/default.aspx#rtsxs
footprint CQ256_N (CQFP, 256-Leads, Body 36x36mm; Pitch 0.5mm, Gullwing Leadform, IPC Medium Density)
footprint CQ256_L (CQFP, 256-Leads, Body 36x36mm; Pitch 0.5mm, Gullwing Leadform, IPC High Density)
footprint CQ256_M (CQFP, 256-Leads, Body 36x36mm; Pitch 0.5mm, Gullwing Leadform, IPC Low Density)
part A pins: 2 TDI/IO (io), 3 IO (io), 4 IO (io), 5 IO (io), 6 IO (io), 7 IO (io), 8 IO (io), 9 IO (io), 10 IO (io), 11 TMS (in), 12 IO (io), 13 IO (io), 14 IO (io), 15 IO (io), 16 IO (io), 18 IO (io), 19 IO (io), 20 IO (io), 21 IO (io), 22 IO (io), 23 IO (io), 24 IO (io), 25 IO (io), 26 IO (io), 27 IO (io), 32 IO (io), 33 IO (io), 34 ~{TRST} (in), 35 IO (io), 38 IO (io), 39 IO (io), 40 IO (io), 41 IO (io), 42 IO (io), 43 IO (io), 44 IO (io), 45 IO (io), 48 IO (io), 49 IO (io), 50 IO (io), 51 IO (io), 52 IO (io), 53 IO (io), 54 IO (io), 55 IO (io), 57 IO (io), 58 IO (io), 60 IO (io), 61 IO (io), 62 IO (io), 63 IO (io), 64 IO (io), 65 IO (io), 66 IO (io), 67 IO (io), 68 IO (io), 69 IO (io), 70 IO (io), 71 IO (io), 72 IO (io), 74 IO (io), 75 IO (io), 76 IO (io), 77 IO (io), 78 IO (io), 79 IO (io), 80 IO (io), 81 IO (io), 82 IO (io), 83 IO (io), 84 IO (io), 85 IO (io), 86 IO (io), 87 IO (io), 88 IO (io), 89 QCLKA/IO (io), 90 PRB/IO (io), 95 IO (io), 96 HCLK (in), 97 IO (io), 98 QCLKB/IO (io), 99 IO (io), 100 IO (io), 101 IO (io), 102 IO (io), 103 IO (io), 104 IO (io), 105 IO (io), 106 IO (io), 107 IO (io), 108 IO (io), 109 IO (io), 111 IO (io), 112 IO (io), 113 IO (io), 114 IO (io), 115 IO (io), 116 IO (io), 117 IO (io), 118 IO (io), 119 IO (io), 121 IO (io), 122 IO (io), 123 IO (io), 124 IO (io), 125 IO (io), 126 TDO/IO (io), 127 IO (io), 129 IO (io), 130 IO (io), 131 IO (io), 132 IO (io), 133 IO (io), 134 IO (io), 135 IO (io), 136 IO (io), 137 IO (io), 138 IO (io), 139 IO (io), 140 IO (io), 145 IO (io), 146 IO (io), 147 IO (io), 148 IO (io), 149 IO (io), 150 IO (io), 151 IO (io), 152 IO (io), 153 IO (io), 154 IO (io), 155 IO (io), 156 IO (io), 157 IO (io), 163 IO (io), 164 IO (io), 165 IO (io), 166 IO (io), 167 IO (io), 168 IO (io), 169 IO (io), 170 IO (io), 171 IO (io), 172 IO (io), 173 IO (io), 177 IO (io), 178 IO (io), 179 IO (io), 180 IO (io), 181 IO (io), 182 IO (io), 184 IO (io), 185 IO (io), 186 IO (io), 187 IO (io), 188 IO (io), 190 IO (io), 191 IO (io), 192 IO (io), 193 IO (io), 194 IO (io), 195 IO (io), 196 IO (io), 197 IO (io), 198 IO (io), 199 IO (io), 200 IO (io), 201 IO (io), 203 IO (io), 204 IO (io), 205 IO (io), 206 IO (io), 207 IO (io), 208 IO (io), 209 IO (io), 210 IO (io), 211 IO (io), 212 IO (io), 213 IO (io), 214 IO (io), 215 IO (io), 216 IO (io), 217 IO (io), 218 QCLKD/IO (io), 219 CLKA/IO (in), 220 CLKB/IO (in), 225 PRA/IO (io), 226 IO (io), 227 IO (io), 229 IO (io), 230 IO (io), 231 QCLKC/IO (io), 232 IO (io), 233 IO (io), 234 IO (io), 235 IO (io), 236 IO (io), 237 IO (io), 238 IO (io), 239 IO (io), 241 IO (io), 242 IO (io), 243 IO (io), 244 IO (io), 245 IO (io), 246 IO (io), 247 IO (io), 248 IO (io), 250 IO (io), 251 IO (io), 252 IO (io), 253 IO (io), 254 IO (io), 255 IO (io), 256 TCK/IO (io)
part B pins: 1 GND (power), 17 VCCI (power), 28 VCCI (power), 29 GND (power), 30 VCCA (power), 31 GND (power), 36 VCCA (power), 37 GND (power), 46 VCCA (power), 47 VCCI (power), 56 GND (power), 59 GND (power), 73 VCCI (power), 91 GND (power), 92 VCCI (power), 93 GND (power), 94 VCCA (power), 110 GND (power), 120 VCCI (power), 128 GND (power), 141 VCCA (power), 142 VCCI (power), 143 GND (power), 144 VCCA (power), 158 GND (power), 159 NC, 160 GND (power), 161 VCCI (power), 162 VCCA (power), 174 VCCA (power), 175 GND (power), 176 GND (power), 183 VCCI (power), 189 GND (power), 202 VCCI (power), 221 VCCI (power), 222 GND (power), 223 NC, 224 GND (power), 228 VCCA (power), 240 GND (power), 249 VCCI (power)

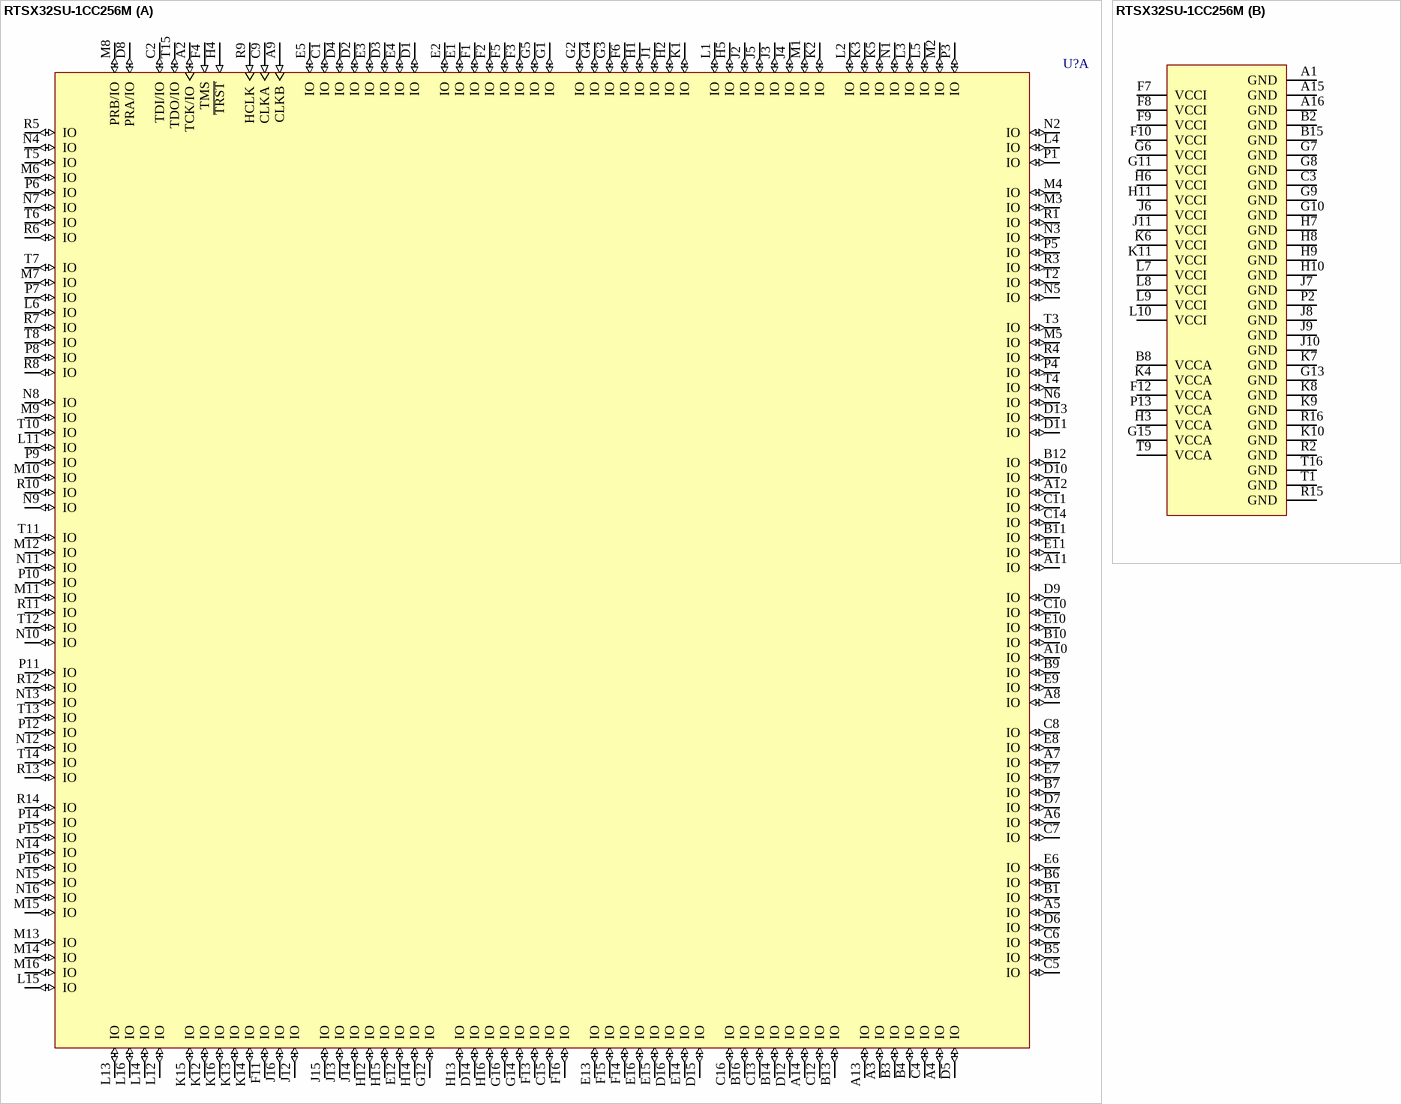
[diagram p30: symbol RTSX32SU-1CC256M]

## RTSX32SU-1CC256M
designator U?
RTSX-SU RadTolerant FPGA (UMC), 32K Typical Gates, 256-Pin CCLG, Speed Grade 1, Military Temperature; DatasheetVersion: v2.2, Mar-2006; PackageVersion: ver11.2, Nov-2009; PackageReference: CC256; PackageDescription: 256-Ball (Ceramic Chip Carrier Land Grid Substrate) Ball Grid Array 1 mm Pitch; Code_IPC: BGA100P16X16-256; ComponentLink1Description: Manufacturer URL; ComponentLink1URL: http://www.actel.com/; ComponentLink2Description: RTSX-SU RadTolerant Datasheet; ComponentLink2URL: http://www.actel.com/documents/RTSXSU_DS.pdf; ComponentLink3Description: Package Mechanical Drawings; ComponentLink3URL: http://www.actel.com/documents/PckgMechDrwngs.pdf; ComponentLink4Description: RTSX-SU RadTolerant Documents; ComponentLink4URL: http://www.actel.com/products/milaero/rtsxsu/docs.aspx
footprint CC256 (BGA, 256-Leads, Body 17x17mm, Pitch 1mm)
part A pins: A2 TCK/IO (io), A3 IO (io), A4 IO (io), A5 IO (io), A6 IO (io), A7 IO (io), A8 IO (io), A9 CLKB (in), A10 IO (io), A11 IO (io), A12 IO (io), A13 IO (io), A14 IO (io), B1 IO (io), B3 IO (io), B4 IO (io), B5 IO (io), B6 IO (io), B7 IO (io), B9 IO (io), B10 IO (io), B11 IO (io), B12 IO (io), B13 IO (io), B14 IO (io), B16 IO (io), C1 IO (io), C2 TDI/IO (io), C4 IO (io), C5 IO (io), C6 IO (io), C7 IO (io), C8 IO (io), C9 CLKA (in), C10 IO (io), C11 IO (io), C12 IO (io), C13 IO (io), C14 IO (io), C15 IO (io), C16 IO (io), D1 IO (io), D2 IO (io), D3 IO (io), D4 IO (io), D5 IO (io), D6 IO (io), D7 IO (io), D8 PRA/IO (io), D9 IO (io), D10 IO (io), D11 IO (io), D12 IO (io), D13 IO (io), D14 IO (io), D15 IO (io), D16 IO (io), E1 IO (io), E2 IO (io), E3 IO (io), E4 IO (io), E5 IO (io), E6 IO (io), E7 IO (io), E8 IO (io), E9 IO (io), E10 IO (io), E11 IO (io), E12 IO (io), E13 IO (io), E14 IO (io), E15 IO (io), E16 IO (io), F1 IO (io), F2 IO (io), F3 IO (io), F4 TMS (in), F5 IO (io), F6 IO (io), F11 IO (io), F13 IO (io), F14 IO (io), F15 IO (io), F16 IO (io), G1 IO (io), G2 IO (io), G3 IO (io), G4 IO (io), G5 IO (io), G12 IO (io), G14 IO (io), G16 IO (io), H1 IO (io), H2 IO (io), H4 ~{TRST} (in), H5 IO (io), H12 IO (io), H13 IO (io), H14 IO (io), H15 IO (io), H16 IO (io), J1 IO (io), J2 IO (io), J3 IO (io), J4 IO (io), J5 IO (io), J12 IO (io), J13 IO (io), J14 IO (io), J15 IO (io), J16 IO (io), K1 IO (io), K2 IO (io), K3 IO (io), K5 IO (io), K12 IO (io), K13 IO (io), K14 IO (io), K15 IO (io), K16 IO (io), L1 IO (io), L2 IO (io), L3 IO (io), L4 IO (io), L5 IO (io), L6 IO (io), L11 IO (io), L12 IO (io), L13 IO (io), L14 IO (io), L15 IO (io), L16 IO (io), M1 IO (io), M2 IO (io), M3 IO (io), M4 IO (io), M5 IO (io), M6 IO (io), M7 IO (io), M8 PRB/IO (io), M9 IO (io), M10 IO (io), M11 IO (io), M12 IO (io), M13 IO (io), M14 IO (io), M15 IO (io), M16 IO (io), N1 IO (io), N2 IO (io), N3 IO (io), N4 IO (io), N5 IO (io), N6 IO (io), N7 IO (io), N8 IO (io), N9 IO (io), N10 IO (io), N11 IO (io), N12 IO (io), N13 IO (io), N14 IO (io), N15 IO (io), N16 IO (io), P1 IO (io), P3 IO (io), P4 IO (io), P5 IO (io), P6 IO (io), P7 IO (io), P8 IO (io), P9 IO (io), P10 IO (io), P11 IO (io), P12 IO (io), P14 IO (io), P15 IO (io), P16 IO (io), R1 IO (io), R3 IO (io), R4 IO (io), R5 IO (io), R6 IO (io), R7 IO (io), R8 IO (io), R9 HCLK (in), R10 IO (io), R11 IO (io), R12 IO (io), R13 IO (io), R14 IO (io), T2 IO (io), T3 IO (io), T4 IO (io), T5 IO (io), T6 IO (io), T7 IO (io), T8 IO (io), T10 IO (io), T11 IO (io), T12 IO (io), T13 IO (io), T14 IO (io), T15 TDO/IO (io)
part B pins: A1 GND (power), A15 GND (power), A16 GND (power), B2 GND (power), B8 VCCA (power), B15 GND (power), C3 GND (power), F7 VCCI (power), F8 VCCI (power), F9 VCCI (power), F10 VCCI (power), F12 VCCA (power), G6 VCCI (power), G7 GND (power), G8 GND (power), G9 GND (power), G10 GND (power), G11 VCCI (power), G13 GND (power), G15 VCCA (power), H3 VCCA (power), H6 VCCI (power), H7 GND (power), H8 GND (power), H9 GND (power), H10 GND (power), H11 VCCI (power), J6 VCCI (power), J7 GND (power), J8 GND (power), J9 GND (power), J10 GND (power), J11 VCCI (power), K4 VCCA (power), K6 VCCI (power), K7 GND (power), K8 GND (power), K9 GND (power), K10 GND (power), K11 VCCI (power), L7 VCCI (power), L8 VCCI (power), L9 VCCI (power), L10 VCCI (power), P2 GND (power), P13 VCCA (power), R2 GND (power), R15 GND (power), R16 GND (power), T1 GND (power), T9 VCCA (power), T16 GND (power)

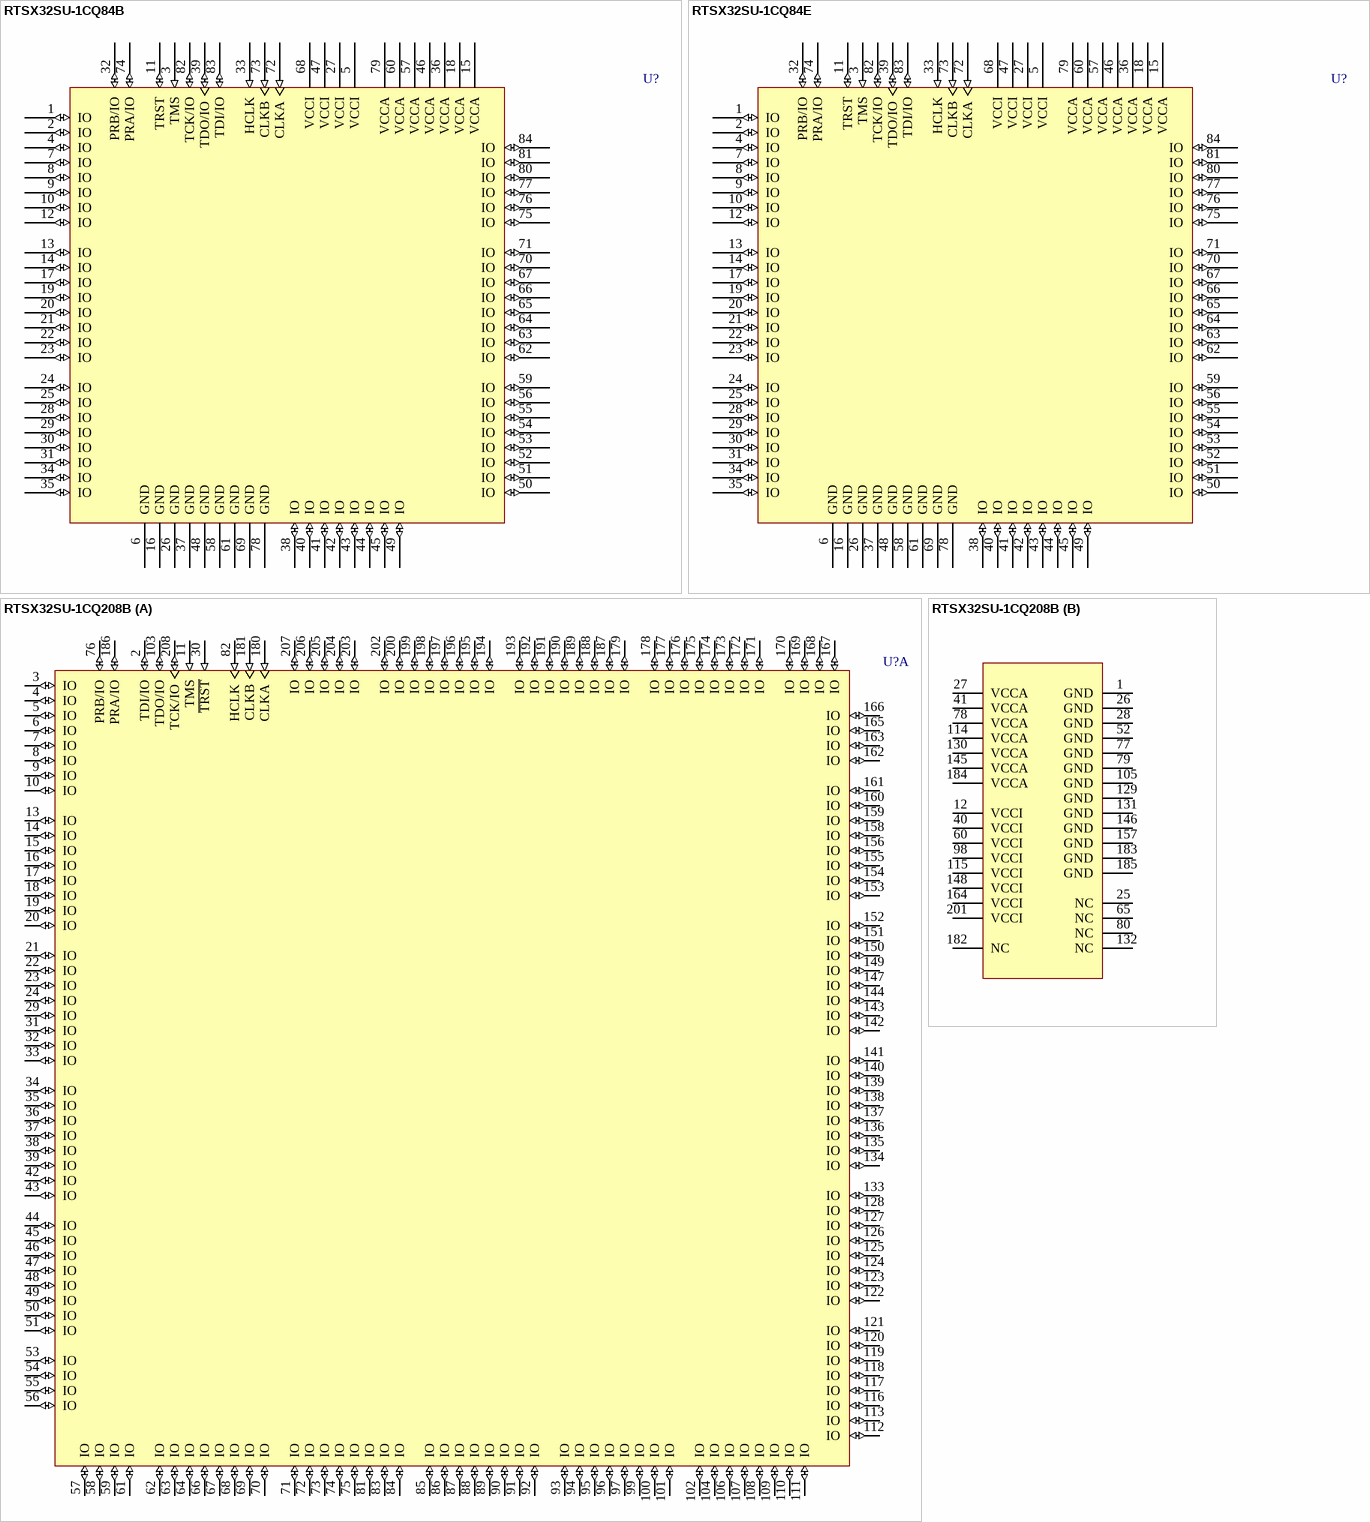
[diagram p31: symbols RTSX32SU-1CQ84B to RTSX32SU-1CQ208B]

## RTSX32SU-1CQ84B
designator U?
RTSX-SU RadTolerant FPGA (UMC), 32K Typical Gates, 84-Pin CQFP, Speed Grade 1, MIL-STD-883 Class B; DatasheetVersion: v2.2, Mar-2006; PackageVersion: ver11.2, Nov-2009; PackageReference: CQ84; PackageDescription: 84-Pin Ceramic Quad Flat Pack (CQFP); ComponentLink1Description: Manufacturer URL; ComponentLink1URL: http://www.actel.com/; ComponentLink2Description: RTSX-SU RadTolerant Datasheet; ComponentLink2URL: http://www.actel.com/documents/RTSXSU_DS.pdf; ComponentLink3Description: Package Mechanical Drawings; ComponentLink3URL: http://www.actel.com/documents/PckgMechDrwngs.pdf; ComponentLink4Description: RTSX-SU RadTolerant Documents; ComponentLink4URL: http://www.actel.com/products/milaero/rtsxsu/docs.aspx
footprint CQ84_N (CQFP, 84-Leads, Body 16.5x16.5mm; Pitch 0.635mm, Gullwing Leadform, IPC Medium Density)
footprint CQ84_L (CQFP, 84-Leads, Body 16.5x16.5mm; Pitch 0.635mm, Gullwing Leadform, IPC High Density)
footprint CQ84_M (CQFP, 84-Leads, Body 16.5x16.5mm; Pitch 0.635mm, Gullwing Leadform, IPC Low Density)
pins: 1 IO (io), 2 IO (io), 3 TMS (in), 4 IO (io), 5 VCCI (power), 6 GND (power), 7 IO (io), 8 IO (io), 9 IO (io), 10 IO (io), 11 TRST (io), 12 IO (io), 13 IO (io), 14 IO (io), 15 VCCA (power), 16 GND (power), 17 IO (io), 18 VCCA (power), 19 IO (io), 20 IO (io), 21 IO (io), 22 IO (io), 23 IO (io), 24 IO (io), 25 IO (io), 26 GND (power), 27 VCCI (power), 28 IO (io), 29 IO (io), 30 IO (io), 31 IO (io), 32 PRB/IO (io), 33 HCLK (in), 34 IO (io), 35 IO (io), 36 VCCA (power), 37 GND (power), 38 IO (io), 39 TDO/IO (io), 40 IO (io), 41 IO (io), 42 IO (io), 43 IO (io), 44 IO (io), 45 IO (io), 46 VCCA (power), 47 VCCI (power), 48 GND (power), 49 IO (io), 50 IO (io), 51 IO (io), 52 IO (io), 53 IO (io), 54 IO (io), 55 IO (io), 56 IO (io), 57 VCCA (power), 58 GND (power), 59 IO (io), 60 VCCA (power), 61 GND (power), 62 IO (io), 63 IO (io), 64 IO (io), 65 IO (io), 66 IO (io), 67 IO (io), 68 VCCI (power), 69 GND (power), 70 IO (io), 71 IO (io), 72 CLKA (in), 73 CLKB (in), 74 PRA/IO (io), 75 IO (io), 76 IO (io), 77 IO (io), 78 GND (power), 79 VCCA (power), 80 IO (io), 81 IO (io), 82 TCK/IO (io), 83 TDI/IO (io), 84 IO (io)

## RTSX32SU-1CQ84E
designator U?
RTSX-SU RadTolerant FPGA (UMC), 32K Typical Gates, 84-Pin CQFP, Speed Grade 1, E-Flow (Space Level Flow); DatasheetVersion: v2.2, Mar-2006; PackageVersion: ver11.2, Nov-2009; PackageReference: CQ84; PackageDescription: 84-Pin Ceramic Quad Flat Pack (CQFP); ComponentLink1Description: Manufacturer URL; ComponentLink1URL: http://www.actel.com/; ComponentLink2Description: RTSX-SU RadTolerant Datasheet; ComponentLink2URL: http://www.actel.com/documents/RTSXSU_DS.pdf; ComponentLink3Description: Package Mechanical Drawings; ComponentLink3URL: http://www.actel.com/documents/PckgMechDrwngs.pdf; ComponentLink4Description: RTSX-SU RadTolerant Documents; ComponentLink4URL: http://www.actel.com/products/milaero/rtsxsu/docs.aspx
footprint CQ84_N (CQFP, 84-Leads, Body 16.5x16.5mm; Pitch 0.635mm, Gullwing Leadform, IPC Medium Density)
footprint CQ84_L (CQFP, 84-Leads, Body 16.5x16.5mm; Pitch 0.635mm, Gullwing Leadform, IPC High Density)
footprint CQ84_M (CQFP, 84-Leads, Body 16.5x16.5mm; Pitch 0.635mm, Gullwing Leadform, IPC Low Density)
pins: 1 IO (io), 2 IO (io), 3 TMS (in), 4 IO (io), 5 VCCI (power), 6 GND (power), 7 IO (io), 8 IO (io), 9 IO (io), 10 IO (io), 11 TRST (io), 12 IO (io), 13 IO (io), 14 IO (io), 15 VCCA (power), 16 GND (power), 17 IO (io), 18 VCCA (power), 19 IO (io), 20 IO (io), 21 IO (io), 22 IO (io), 23 IO (io), 24 IO (io), 25 IO (io), 26 GND (power), 27 VCCI (power), 28 IO (io), 29 IO (io), 30 IO (io), 31 IO (io), 32 PRB/IO (io), 33 HCLK (in), 34 IO (io), 35 IO (io), 36 VCCA (power), 37 GND (power), 38 IO (io), 39 TDO/IO (io), 40 IO (io), 41 IO (io), 42 IO (io), 43 IO (io), 44 IO (io), 45 IO (io), 46 VCCA (power), 47 VCCI (power), 48 GND (power), 49 IO (io), 50 IO (io), 51 IO (io), 52 IO (io), 53 IO (io), 54 IO (io), 55 IO (io), 56 IO (io), 57 VCCA (power), 58 GND (power), 59 IO (io), 60 VCCA (power), 61 GND (power), 62 IO (io), 63 IO (io), 64 IO (io), 65 IO (io), 66 IO (io), 67 IO (io), 68 VCCI (power), 69 GND (power), 70 IO (io), 71 IO (io), 72 CLKA (in), 73 CLKB (in), 74 PRA/IO (io), 75 IO (io), 76 IO (io), 77 IO (io), 78 GND (power), 79 VCCA (power), 80 IO (io), 81 IO (io), 82 TCK/IO (io), 83 TDI/IO (io), 84 IO (io)

## RTSX32SU-1CQ208B
designator U?
RTSX-SU RadTolerant FPGA (UMC), 32K Typical Gates, 208-Pin CQFP, Speed Grade 1, MIL-STD-883 Class B; DatasheetVersion: v2.2, Mar-2006; PackageVersion: ver11.2, Nov-2009; PackageReference: CQ208; PackageDescription: 208-Pin Ceramic Quad Flat Pack (CQFP); ComponentLink1Description: Manufacturer URL; ComponentLink1URL: http://www.actel.com/; ComponentLink2Description: RTSX-SU RadTolerant Datasheet; ComponentLink2URL: http://www.actel.com/documents/RTSXSU_DS.pdf; ComponentLink3Description: Package Mechanical Drawings; ComponentLink3URL: http://www.actel.com/documents/PckgMechDrwngs.pdf; ComponentLink4Description: RTSX-SU RadTolerant Documents; ComponentLink4URL: http://www.actel.com/products/milaero/rtsxsu/docs.aspx
footprint CQ208_N (CQFP, 208-Leads, Body 29x29mm; Pitch 0.5mm, Gullwing Leadform, IPC Medium Density)
footprint CQ208_L (CQFP, 208-Leads, Body 29x29mm; Pitch 0.5mm, Gullwing Leadform, IPC High Density)
footprint CQ208_M (CQFP, 208-Leads, Body 29x29mm; Pitch 0.5mm, Gullwing Leadform, IPC Low Density)
part A pins: 2 TDI/IO (io), 3 IO (io), 4 IO (io), 5 IO (io), 6 IO (io), 7 IO (io), 8 IO (io), 9 IO (io), 10 IO (io), 11 TMS (in), 13 IO (io), 14 IO (io), 15 IO (io), 16 IO (io), 17 IO (io), 18 IO (io), 19 IO (io), 20 IO (io), 21 IO (io), 22 IO (io), 23 IO (io), 24 IO (io), 29 IO (io), 30 ~{TRST} (in), 31 IO (io), 32 IO (io), 33 IO (io), 34 IO (io), 35 IO (io), 36 IO (io), 37 IO (io), 38 IO (io), 39 IO (io), 42 IO (io), 43 IO (io), 44 IO (io), 45 IO (io), 46 IO (io), 47 IO (io), 48 IO (io), 49 IO (io), 50 IO (io), 51 IO (io), 53 IO (io), 54 IO (io), 55 IO (io), 56 IO (io), 57 IO (io), 58 IO (io), 59 IO (io), 61 IO (io), 62 IO (io), 63 IO (io), 64 IO (io), 66 IO (io), 67 IO (io), 68 IO (io), 69 IO (io), 70 IO (io), 71 IO (io), 72 IO (io), 73 IO (io), 74 IO (io), 75 IO (io), 76 PRB/IO (io), 81 IO (io), 82 HCLK (in), 83 IO (io), 84 IO (io), 85 IO (io), 86 IO (io), 87 IO (io), 88 IO (io), 89 IO (io), 90 IO (io), 91 IO (io), 92 IO (io), 93 IO (io), 94 IO (io), 95 IO (io), 96 IO (io), 97 IO (io), 99 IO (io), 100 IO (io), 101 IO (io), 102 IO (io), 103 TDO/IO (io), 104 IO (io), 106 IO (io), 107 IO (io), 108 IO (io), 109 IO (io), 110 IO (io), 111 IO (io), 112 IO (io), 113 IO (io), 116 IO (io), 117 IO (io), 118 IO (io), 119 IO (io), 120 IO (io), 121 IO (io), 122 IO (io), 123 IO (io), 124 IO (io), 125 IO (io), 126 IO (io), 127 IO (io), 128 IO (io), 133 IO (io), 134 IO (io), 135 IO (io), 136 IO (io), 137 IO (io), 138 IO (io), 139 IO (io), 140 IO (io), 141 IO (io), 142 IO (io), 143 IO (io), 144 IO (io), 147 IO (io), 149 IO (io), 150 IO (io), 151 IO (io), 152 IO (io), 153 IO (io), 154 IO (io), 155 IO (io), 156 IO (io), 158 IO (io), 159 IO (io), 160 IO (io), 161 IO (io), 162 IO (io), 163 IO (io), 165 IO (io), 166 IO (io), 167 IO (io), 168 IO (io), 169 IO (io), 170 IO (io), 171 IO (io), 172 IO (io), 173 IO (io), 174 IO (io), 175 IO (io), 176 IO (io), 177 IO (io), 178 IO (io), 179 IO (io), 180 CLKA (in), 181 CLKB (in), 186 PRA/IO (io), 187 IO (io), 188 IO (io), 189 IO (io), 190 IO (io), 191 IO (io), 192 IO (io), 193 IO (io), 194 IO (io), 195 IO (io), 196 IO (io), 197 IO (io), 198 IO (io), 199 IO (io), 200 IO (io), 202 IO (io), 203 IO (io), 204 IO (io), 205 IO (io), 206 IO (io), 207 IO (io), 208 TCK/IO (io)
part B pins: 1 GND (power), 12 VCCI (power), 25 NC, 26 GND (power), 27 VCCA (power), 28 GND (power), 40 VCCI (power), 41 VCCA (power), 52 GND (power), 60 VCCI (power), 65 NC, 77 GND (power), 78 VCCA (power), 79 GND (power), 80 NC, 98 VCCI (power), 105 GND (power), 114 VCCA (power), 115 VCCI (power), 129 GND (power), 130 VCCA (power), 131 GND (power), 132 NC, 145 VCCA (power), 146 GND (power), 148 VCCI (power), 157 GND (power), 164 VCCI (power), 182 NC, 183 GND (power), 184 VCCA (power), 185 GND (power), 201 VCCI (power)

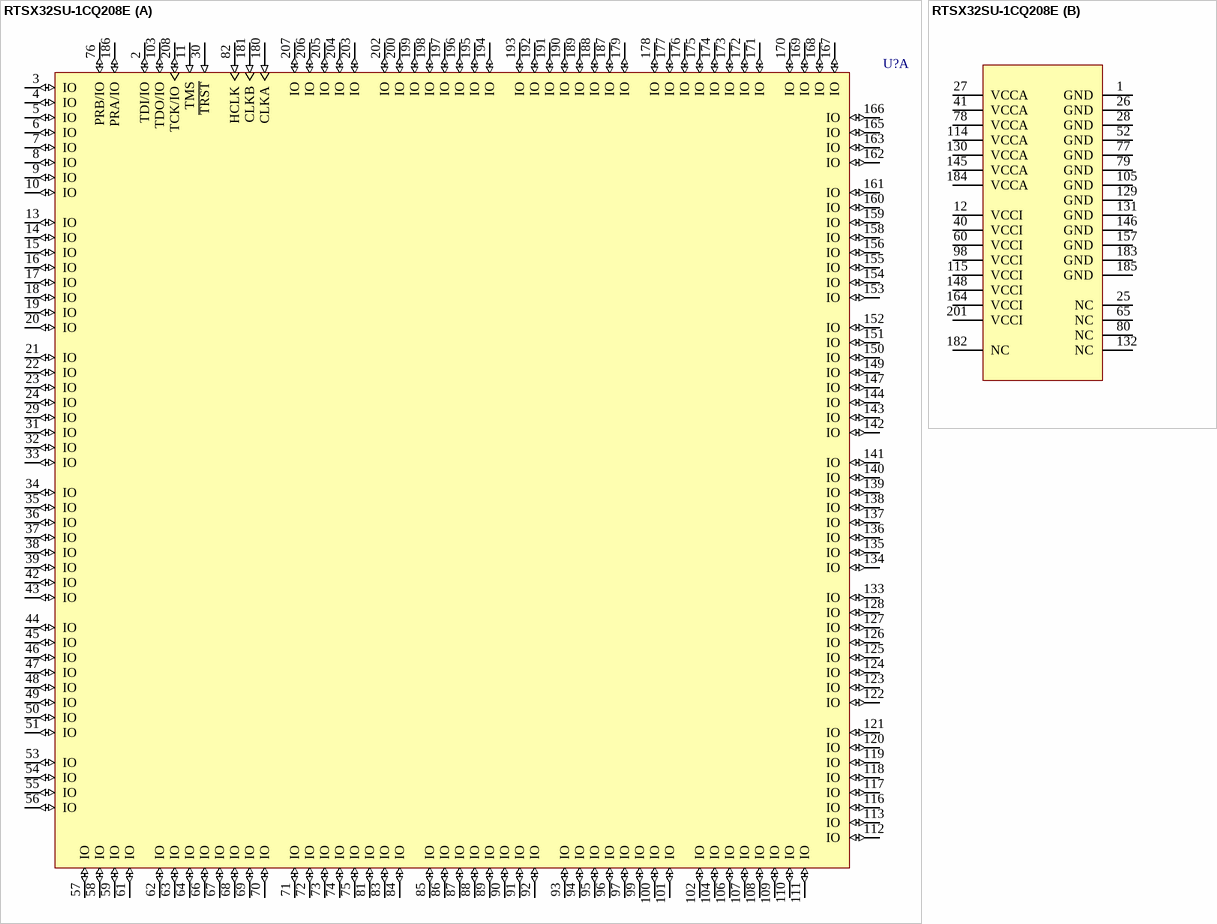
[diagram p32: symbol RTSX32SU-1CQ208E]

## RTSX32SU-1CQ208E
designator U?
RTSX-SU RadTolerant FPGA (UMC), 32K Typical Gates, 208-Pin CQFP, Speed Grade 1, E-Flow (Space Level Flow); DatasheetVersion: v2.2, Mar-2006; PackageVersion: ver11.2, Nov-2009; PackageReference: CQ208; PackageDescription: 208-Pin Ceramic Quad Flat Pack (CQFP); ComponentLink1Description: Manufacturer URL; ComponentLink1URL: http://www.actel.com/; ComponentLink2Description: RTSX-SU RadTolerant Datasheet; ComponentLink2URL: http://www.actel.com/documents/RTSXSU_DS.pdf; ComponentLink3Description: Package Mechanical Drawings; ComponentLink3URL: http://www.actel.com/documents/PckgMechDrwngs.pdf; ComponentLink4Description: RTSX-SU RadTolerant Documents; ComponentLink4URL: http://www.actel.com/products/milaero/rtsxsu/docs.aspx
footprint CQ208_N (CQFP, 208-Leads, Body 29x29mm; Pitch 0.5mm, Gullwing Leadform, IPC Medium Density)
footprint CQ208_L (CQFP, 208-Leads, Body 29x29mm; Pitch 0.5mm, Gullwing Leadform, IPC High Density)
footprint CQ208_M (CQFP, 208-Leads, Body 29x29mm; Pitch 0.5mm, Gullwing Leadform, IPC Low Density)
part A pins: 2 TDI/IO (io), 3 IO (io), 4 IO (io), 5 IO (io), 6 IO (io), 7 IO (io), 8 IO (io), 9 IO (io), 10 IO (io), 11 TMS (in), 13 IO (io), 14 IO (io), 15 IO (io), 16 IO (io), 17 IO (io), 18 IO (io), 19 IO (io), 20 IO (io), 21 IO (io), 22 IO (io), 23 IO (io), 24 IO (io), 29 IO (io), 30 ~{TRST} (in), 31 IO (io), 32 IO (io), 33 IO (io), 34 IO (io), 35 IO (io), 36 IO (io), 37 IO (io), 38 IO (io), 39 IO (io), 42 IO (io), 43 IO (io), 44 IO (io), 45 IO (io), 46 IO (io), 47 IO (io), 48 IO (io), 49 IO (io), 50 IO (io), 51 IO (io), 53 IO (io), 54 IO (io), 55 IO (io), 56 IO (io), 57 IO (io), 58 IO (io), 59 IO (io), 61 IO (io), 62 IO (io), 63 IO (io), 64 IO (io), 66 IO (io), 67 IO (io), 68 IO (io), 69 IO (io), 70 IO (io), 71 IO (io), 72 IO (io), 73 IO (io), 74 IO (io), 75 IO (io), 76 PRB/IO (io), 81 IO (io), 82 HCLK (in), 83 IO (io), 84 IO (io), 85 IO (io), 86 IO (io), 87 IO (io), 88 IO (io), 89 IO (io), 90 IO (io), 91 IO (io), 92 IO (io), 93 IO (io), 94 IO (io), 95 IO (io), 96 IO (io), 97 IO (io), 99 IO (io), 100 IO (io), 101 IO (io), 102 IO (io), 103 TDO/IO (io), 104 IO (io), 106 IO (io), 107 IO (io), 108 IO (io), 109 IO (io), 110 IO (io), 111 IO (io), 112 IO (io), 113 IO (io), 116 IO (io), 117 IO (io), 118 IO (io), 119 IO (io), 120 IO (io), 121 IO (io), 122 IO (io), 123 IO (io), 124 IO (io), 125 IO (io), 126 IO (io), 127 IO (io), 128 IO (io), 133 IO (io), 134 IO (io), 135 IO (io), 136 IO (io), 137 IO (io), 138 IO (io), 139 IO (io), 140 IO (io), 141 IO (io), 142 IO (io), 143 IO (io), 144 IO (io), 147 IO (io), 149 IO (io), 150 IO (io), 151 IO (io), 152 IO (io), 153 IO (io), 154 IO (io), 155 IO (io), 156 IO (io), 158 IO (io), 159 IO (io), 160 IO (io), 161 IO (io), 162 IO (io), 163 IO (io), 165 IO (io), 166 IO (io), 167 IO (io), 168 IO (io), 169 IO (io), 170 IO (io), 171 IO (io), 172 IO (io), 173 IO (io), 174 IO (io), 175 IO (io), 176 IO (io), 177 IO (io), 178 IO (io), 179 IO (io), 180 CLKA (in), 181 CLKB (in), 186 PRA/IO (io), 187 IO (io), 188 IO (io), 189 IO (io), 190 IO (io), 191 IO (io), 192 IO (io), 193 IO (io), 194 IO (io), 195 IO (io), 196 IO (io), 197 IO (io), 198 IO (io), 199 IO (io), 200 IO (io), 202 IO (io), 203 IO (io), 204 IO (io), 205 IO (io), 206 IO (io), 207 IO (io), 208 TCK/IO (io)
part B pins: 1 GND (power), 12 VCCI (power), 25 NC, 26 GND (power), 27 VCCA (power), 28 GND (power), 40 VCCI (power), 41 VCCA (power), 52 GND (power), 60 VCCI (power), 65 NC, 77 GND (power), 78 VCCA (power), 79 GND (power), 80 NC, 98 VCCI (power), 105 GND (power), 114 VCCA (power), 115 VCCI (power), 129 GND (power), 130 VCCA (power), 131 GND (power), 132 NC, 145 VCCA (power), 146 GND (power), 148 VCCI (power), 157 GND (power), 164 VCCI (power), 182 NC, 183 GND (power), 184 VCCA (power), 185 GND (power), 201 VCCI (power)

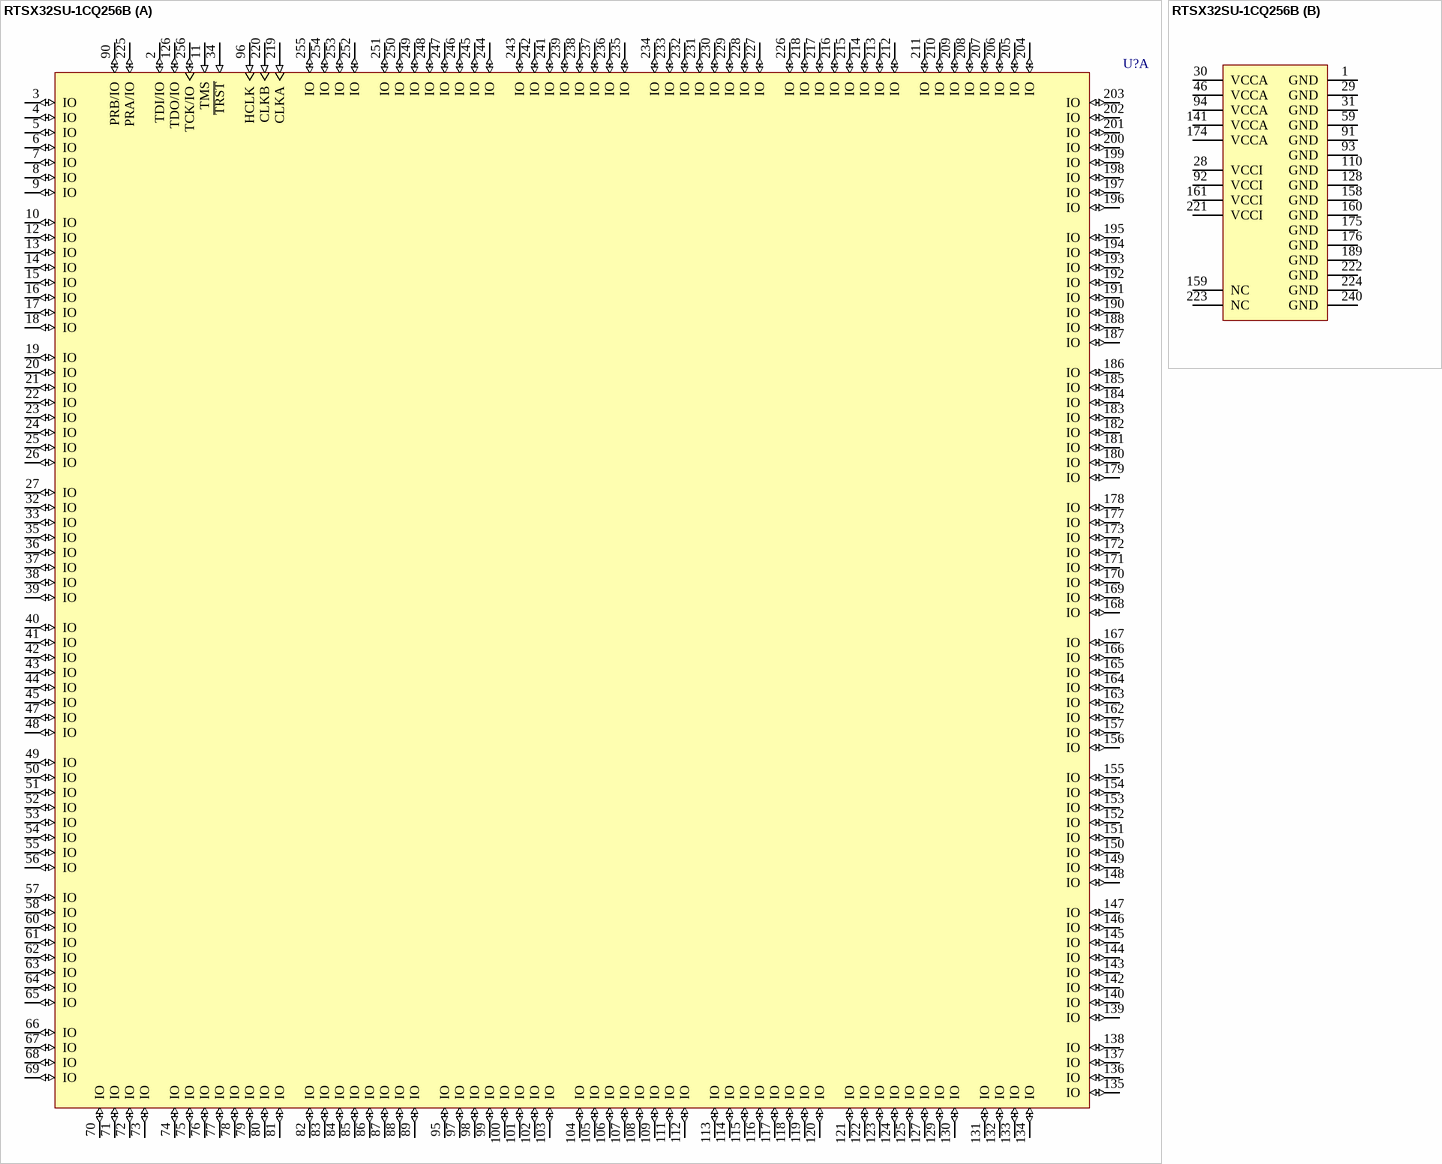
[diagram p33: symbol RTSX32SU-1CQ256B]

## RTSX32SU-1CQ256B
designator U?
RTSX-SU RadTolerant FPGA (UMC), 32K Typical Gates, 256-Pin CQFP, Speed Grade 1, MIL-STD-883 Class B; DatasheetVersion: v2.2, Mar-2006; PackageVersion: ver11.2, Nov-2009; PackageReference: CQ256; PackageDescription: 256-Pin Ceramic Quad Flat Pack (CQFP); Code_JEDEC: MO-134-AB; ComponentLink1Description: Manufacturer URL; ComponentLink1URL: http://www.actel.com/; ComponentLink2Description: RTSX-SU RadTolerant Datasheet; ComponentLink2URL: http://www.actel.com/documents/RTSXSU_DS.pdf; ComponentLink3Description: Package Mechanical Drawings; ComponentLink3URL: http://www.actel.com/documents/PckgMechDrwngs.pdf; ComponentLink4Description: RTSX-SU RadTolerant Documents; ComponentLink4URL: http://www.actel.com/products/milaero/rtsxsu/docs.aspx
footprint CQ256_N (CQFP, 256-Leads, Body 36x36mm; Pitch 0.5mm, Gullwing Leadform, IPC Medium Density)
footprint CQ256_L (CQFP, 256-Leads, Body 36x36mm; Pitch 0.5mm, Gullwing Leadform, IPC High Density)
footprint CQ256_M (CQFP, 256-Leads, Body 36x36mm; Pitch 0.5mm, Gullwing Leadform, IPC Low Density)
part A pins: 2 TDI/IO (io), 3 IO (io), 4 IO (io), 5 IO (io), 6 IO (io), 7 IO (io), 8 IO (io), 9 IO (io), 10 IO (io), 11 TMS (in), 12 IO (io), 13 IO (io), 14 IO (io), 15 IO (io), 16 IO (io), 17 IO (io), 18 IO (io), 19 IO (io), 20 IO (io), 21 IO (io), 22 IO (io), 23 IO (io), 24 IO (io), 25 IO (io), 26 IO (io), 27 IO (io), 32 IO (io), 33 IO (io), 34 ~{TRST} (in), 35 IO (io), 36 IO (io), 37 IO (io), 38 IO (io), 39 IO (io), 40 IO (io), 41 IO (io), 42 IO (io), 43 IO (io), 44 IO (io), 45 IO (io), 47 IO (io), 48 IO (io), 49 IO (io), 50 IO (io), 51 IO (io), 52 IO (io), 53 IO (io), 54 IO (io), 55 IO (io), 56 IO (io), 57 IO (io), 58 IO (io), 60 IO (io), 61 IO (io), 62 IO (io), 63 IO (io), 64 IO (io), 65 IO (io), 66 IO (io), 67 IO (io), 68 IO (io), 69 IO (io), 70 IO (io), 71 IO (io), 72 IO (io), 73 IO (io), 74 IO (io), 75 IO (io), 76 IO (io), 77 IO (io), 78 IO (io), 79 IO (io), 80 IO (io), 81 IO (io), 82 IO (io), 83 IO (io), 84 IO (io), 85 IO (io), 86 IO (io), 87 IO (io), 88 IO (io), 89 IO (io), 90 PRB/IO (io), 95 IO (io), 96 HCLK (in), 97 IO (io), 98 IO (io), 99 IO (io), 100 IO (io), 101 IO (io), 102 IO (io), 103 IO (io), 104 IO (io), 105 IO (io), 106 IO (io), 107 IO (io), 108 IO (io), 109 IO (io), 111 IO (io), 112 IO (io), 113 IO (io), 114 IO (io), 115 IO (io), 116 IO (io), 117 IO (io), 118 IO (io), 119 IO (io), 120 IO (io), 121 IO (io), 122 IO (io), 123 IO (io), 124 IO (io), 125 IO (io), 126 TDO/IO (io), 127 IO (io), 129 IO (io), 130 IO (io), 131 IO (io), 132 IO (io), 133 IO (io), 134 IO (io), 135 IO (io), 136 IO (io), 137 IO (io), 138 IO (io), 139 IO (io), 140 IO (io), 142 IO (io), 143 IO (io), 144 IO (io), 145 IO (io), 146 IO (io), 147 IO (io), 148 IO (io), 149 IO (io), 150 IO (io), 151 IO (io), 152 IO (io), 153 IO (io), 154 IO (io), 155 IO (io), 156 IO (io), 157 IO (io), 162 IO (io), 163 IO (io), 164 IO (io), 165 IO (io), 166 IO (io), 167 IO (io), 168 IO (io), 169 IO (io), 170 IO (io), 171 IO (io), 172 IO (io), 173 IO (io), 177 IO (io), 178 IO (io), 179 IO (io), 180 IO (io), 181 IO (io), 182 IO (io), 183 IO (io), 184 IO (io), 185 IO (io), 186 IO (io), 187 IO (io), 188 IO (io), 190 IO (io), 191 IO (io), 192 IO (io), 193 IO (io), 194 IO (io), 195 IO (io), 196 IO (io), 197 IO (io), 198 IO (io), 199 IO (io), 200 IO (io), 201 IO (io), 202 IO (io), 203 IO (io), 204 IO (io), 205 IO (io), 206 IO (io), 207 IO (io), 208 IO (io), 209 IO (io), 210 IO (io), 211 IO (io), 212 IO (io), 213 IO (io), 214 IO (io), 215 IO (io), 216 IO (io), 217 IO (io), 218 IO (io), 219 CLKA (in), 220 CLKB (in), 225 PRA/IO (io), 226 IO (io), 227 IO (io), 228 IO (io), 229 IO (io), 230 IO (io), 231 IO (io), 232 IO (io), 233 IO (io), 234 IO (io), 235 IO (io), 236 IO (io), 237 IO (io), 238 IO (io), 239 IO (io), 241 IO (io), 242 IO (io), 243 IO (io), 244 IO (io), 245 IO (io), 246 IO (io), 247 IO (io), 248 IO (io), 249 IO (io), 250 IO (io), 251 IO (io), 252 IO (io), 253 IO (io), 254 IO (io), 255 IO (io), 256 TCK/IO (io)
part B pins: 1 GND (power), 28 VCCI (power), 29 GND (power), 30 VCCA (power), 31 GND (power), 46 VCCA (power), 59 GND (power), 91 GND (power), 92 VCCI (power), 93 GND (power), 94 VCCA (power), 110 GND (power), 128 GND (power), 141 VCCA (power), 158 GND (power), 159 NC, 160 GND (power), 161 VCCI (power), 174 VCCA (power), 175 GND (power), 176 GND (power), 189 GND (power), 221 VCCI (power), 222 GND (power), 223 NC, 224 GND (power), 240 GND (power)

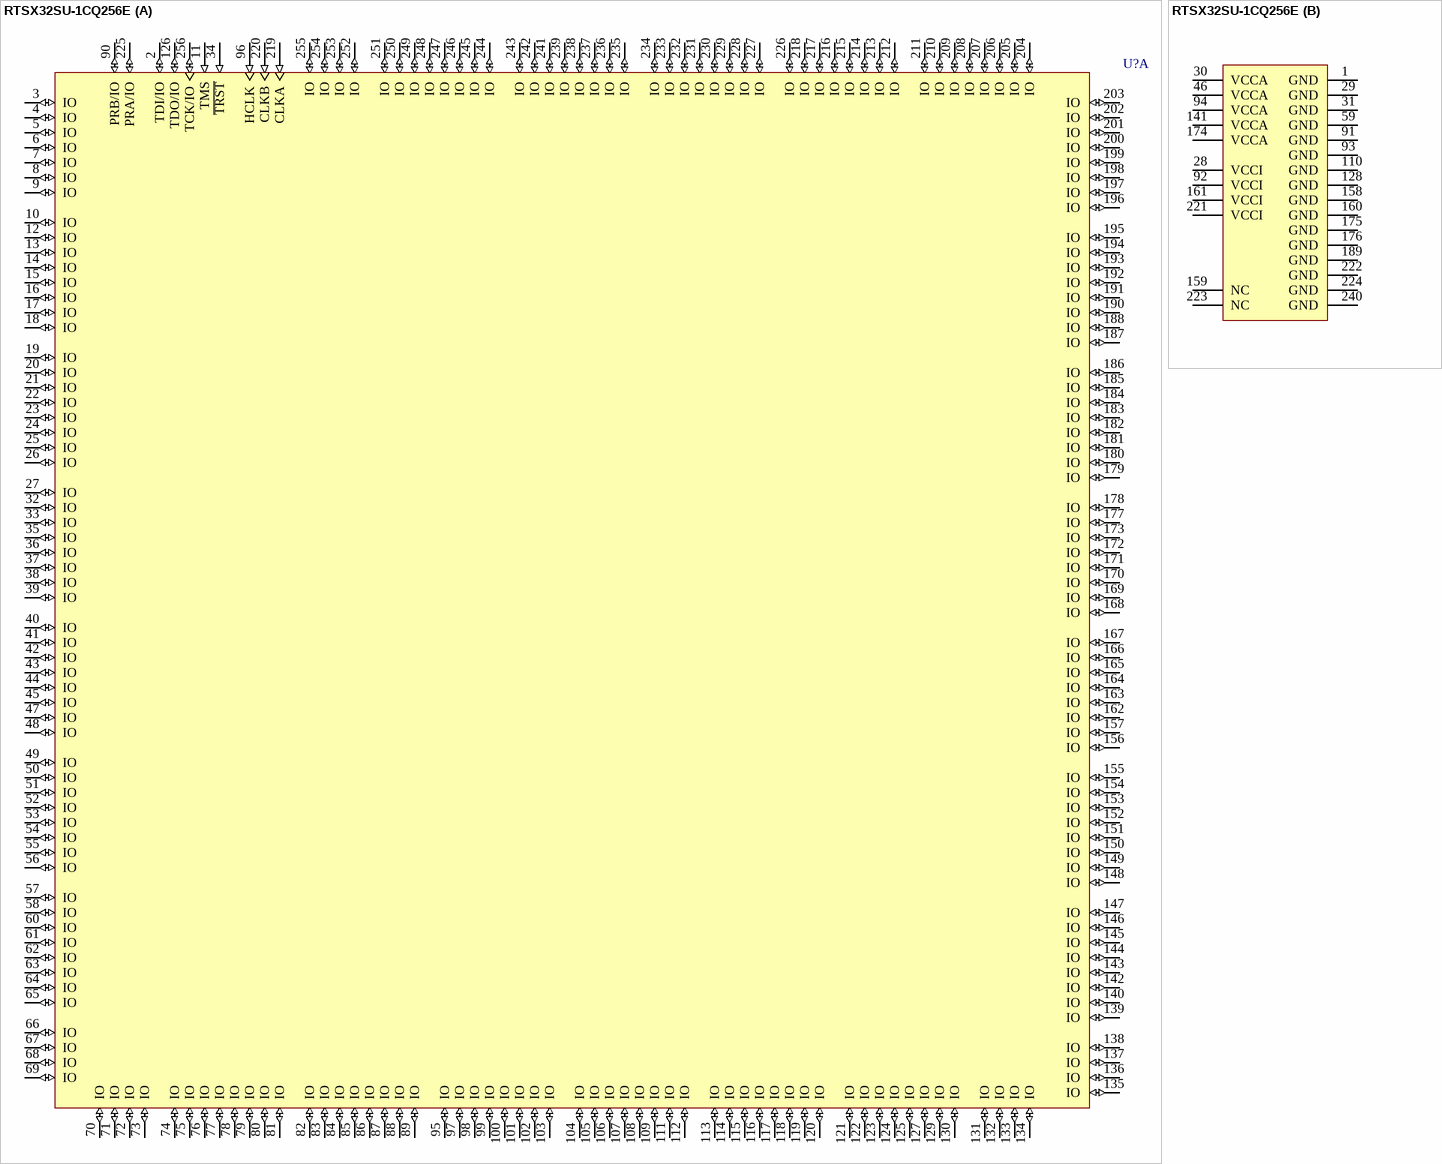
[diagram p34: symbol RTSX32SU-1CQ256E]